# Altium schematic symbol library MCU_NXP_LPC.SchLib: 105 symbols (part 1 of 2)
Pins are listed as number, name and electrical type; pins without a type are passive.

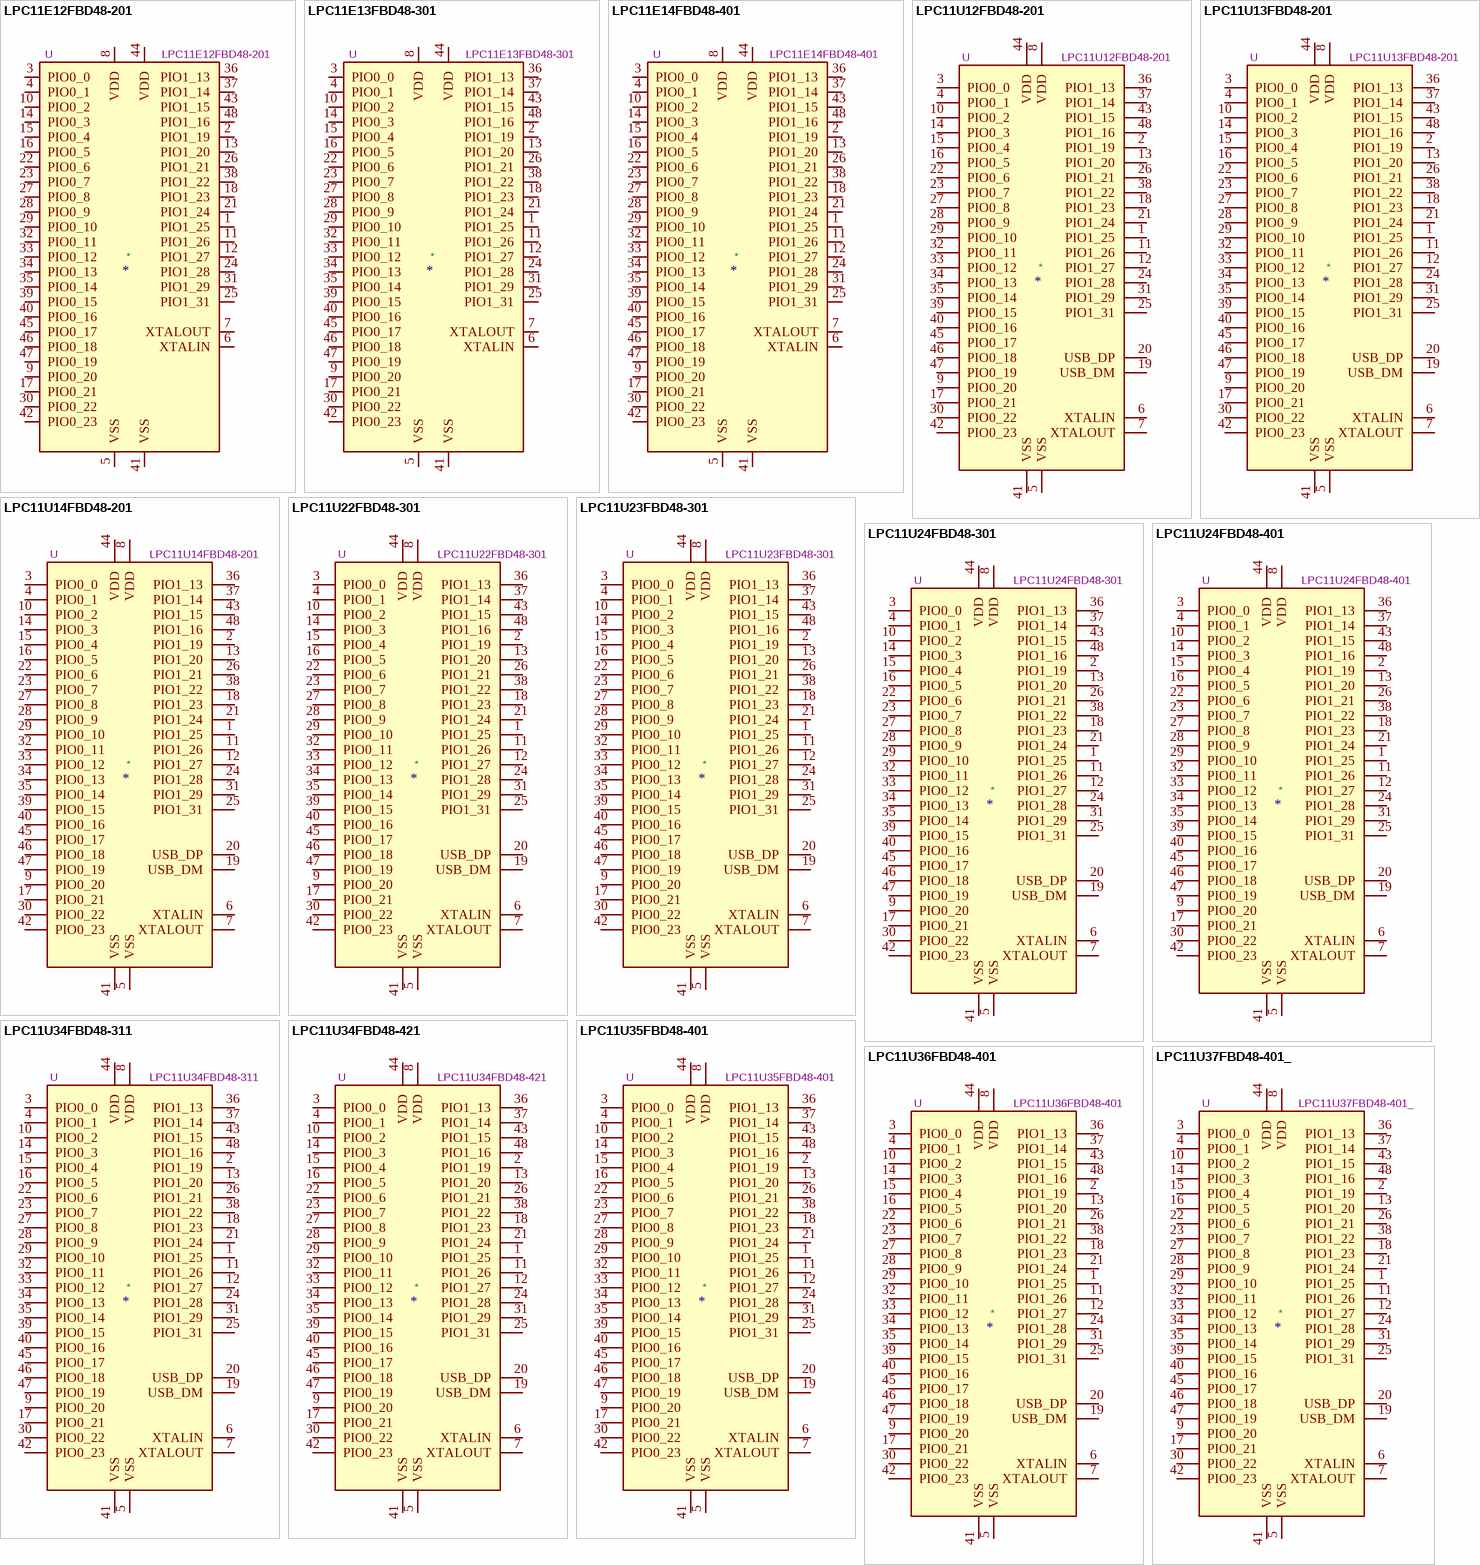
[diagram p0: symbols LPC11E12FBD48-201 to LPC11U37FBD48-401_]

## LPC11E12FBD48-201
designator *  value LPC11E12FBD48-201  Reference: U
ki_keywords: nxp lpc arm microcontroller cortex; ki_description: LPC11E1x, 50MHz Cortex-M0 MCU, 16kB Flash, 1kB EEPROM, 6kB SRAM, USART, I2C, SSP, ADC, Power Profile, LQFP48; ki_fp_filters: *QFP*7x7mm*P0.5mm*; Footprint: Package_QFP:LQFP-48_7x7mm_P0.5mm; Datasheet: http://www.nxp.com/docs/en/data-sheet/LPC11E1X.pdf
pins: 1 PIO1_25, 2 PIO1_19, 3 PIO0_0, 4 PIO0_1, 5 VSS, 6 XTALIN, 7 XTALOUT, 8 VDD, 9 PIO0_20, 10 PIO0_2, 11 PIO1_26, 12 PIO1_27, 13 PIO1_20, 14 PIO0_3, 15 PIO0_4, 16 PIO0_5, 17 PIO0_21, 18 PIO1_23, 19 NC hidden, 20 NC hidden, 21 PIO1_24, 22 PIO0_6, 23 PIO0_7, 24 PIO1_28, 25 PIO1_31, 26 PIO1_21, 27 PIO0_8, 28 PIO0_9, 29 PIO0_10, 30 PIO0_22, 31 PIO1_29, 32 PIO0_11, 33 PIO0_12, 34 PIO0_13, 35 PIO0_14, 36 PIO1_13, 37 PIO1_14, 38 PIO1_22, 39 PIO0_15, 40 PIO0_16, 41 VSS, 42 PIO0_23, 43 PIO1_15, 44 VDD, 45 PIO0_17, 46 PIO0_18, 47 PIO0_19, 48 PIO1_16

## LPC11E13FBD48-301
designator *  value LPC11E13FBD48-301  Reference: U
ki_keywords: nxp lpc arm microcontroller cortex; ki_description: LPC11E1x, 50MHz Cortex-M0 MCU, 24kB Flash, 2kB EEPROM, 8kB SRAM, USART, I2C, SSP, ADC, Power Profile, LQFP48; ki_fp_filters: *QFP*7x7mm*P0.5mm*; Footprint: Package_QFP:LQFP-48_7x7mm_P0.5mm; Datasheet: http://www.nxp.com/docs/en/data-sheet/LPC11E1X.pdf
pins: 1 PIO1_25, 2 PIO1_19, 3 PIO0_0, 4 PIO0_1, 5 VSS, 6 XTALIN, 7 XTALOUT, 8 VDD, 9 PIO0_20, 10 PIO0_2, 11 PIO1_26, 12 PIO1_27, 13 PIO1_20, 14 PIO0_3, 15 PIO0_4, 16 PIO0_5, 17 PIO0_21, 18 PIO1_23, 19 NC hidden, 20 NC hidden, 21 PIO1_24, 22 PIO0_6, 23 PIO0_7, 24 PIO1_28, 25 PIO1_31, 26 PIO1_21, 27 PIO0_8, 28 PIO0_9, 29 PIO0_10, 30 PIO0_22, 31 PIO1_29, 32 PIO0_11, 33 PIO0_12, 34 PIO0_13, 35 PIO0_14, 36 PIO1_13, 37 PIO1_14, 38 PIO1_22, 39 PIO0_15, 40 PIO0_16, 41 VSS, 42 PIO0_23, 43 PIO1_15, 44 VDD, 45 PIO0_17, 46 PIO0_18, 47 PIO0_19, 48 PIO1_16

## LPC11E14FBD48-401
designator *  value LPC11E14FBD48-401  Reference: U
ki_keywords: nxp lpc arm microcontroller cortex; ki_description: LPC11U00 USB series, 50MHz Cortex-M0 MCU, USB, ADC, USART, I2C, SPI, LQFP48 package; ki_fp_filters: *QFP*7x7mm*P0.5mm*; Footprint: Package_QFP:LQFP-48_7x7mm_P0.5mm; Datasheet: http://www.nxp.com/docs/en/data-sheet/LPC11U1X.pdf
pins: 1 PIO1_25, 2 PIO1_19, 3 PIO0_0, 4 PIO0_1, 5 VSS, 6 XTALIN, 7 XTALOUT, 8 VDD, 9 PIO0_20, 10 PIO0_2, 11 PIO1_26, 12 PIO1_27, 13 PIO1_20, 14 PIO0_3, 15 PIO0_4, 16 PIO0_5, 17 PIO0_21, 18 PIO1_23, 19 NC hidden, 20 NC hidden, 21 PIO1_24, 22 PIO0_6, 23 PIO0_7, 24 PIO1_28, 25 PIO1_31, 26 PIO1_21, 27 PIO0_8, 28 PIO0_9, 29 PIO0_10, 30 PIO0_22, 31 PIO1_29, 32 PIO0_11, 33 PIO0_12, 34 PIO0_13, 35 PIO0_14, 36 PIO1_13, 37 PIO1_14, 38 PIO1_22, 39 PIO0_15, 40 PIO0_16, 41 VSS, 42 PIO0_23, 43 PIO1_15, 44 VDD, 45 PIO0_17, 46 PIO0_18, 47 PIO0_19, 48 PIO1_16

## LPC11U12FBD48-201
designator *  value LPC11U12FBD48-201  Reference: U
ki_keywords: ARM, 32-bit, Cortex-M0, M0, NXP, microcontroller; ki_description: 32-bit ARM Cortex-M0 microcontroller, USB, 16KB flash, 6KB SRAM; ki_fp_filters: *QFP*7x7mm*P0.5mm*; Footprint: Package_QFP:LQFP-48_7x7mm_P0.5mm; Datasheet: http://www.nxp.com/docs/en/data-sheet/LPC11U1X.pdf
pins: 1 PIO1_25, 2 PIO1_19, 3 PIO0_0, 4 PIO0_1, 5 VSS, 6 XTALIN, 7 XTALOUT, 8 VDD, 9 PIO0_20, 10 PIO0_2, 11 PIO1_26, 12 PIO1_27, 13 PIO1_20, 14 PIO0_3, 15 PIO0_4, 16 PIO0_5, 17 PIO0_21, 18 PIO1_23, 19 USB_DM, 20 USB_DP, 21 PIO1_24, 22 PIO0_6, 23 PIO0_7, 24 PIO1_28, 25 PIO1_31, 26 PIO1_21, 27 PIO0_8, 28 PIO0_9, 29 PIO0_10, 30 PIO0_22, 31 PIO1_29, 32 PIO0_11, 33 PIO0_12, 34 PIO0_13, 35 PIO0_14, 36 PIO1_13, 37 PIO1_14, 38 PIO1_22, 39 PIO0_15, 40 PIO0_16, 41 VSS, 42 PIO0_23, 43 PIO1_15, 44 VDD, 45 PIO0_17, 46 PIO0_18, 47 PIO0_19, 48 PIO1_16

## LPC11U13FBD48-201
designator *  value LPC11U13FBD48-201  Reference: U
ki_keywords: ARM, 32-bit, Cortex-M0, M0, NXP, microcontroller; ki_description: 32-bit ARM Cortex-M0 microcontroller, USB, 24KB flash, 6KB SRAM; ki_fp_filters: *QFP*7x7mm*P0.5mm*; Footprint: Package_QFP:LQFP-48_7x7mm_P0.5mm; Datasheet: http://www.nxp.com/docs/en/data-sheet/LPC11U1X.pdf
pins: 1 PIO1_25, 2 PIO1_19, 3 PIO0_0, 4 PIO0_1, 5 VSS, 6 XTALIN, 7 XTALOUT, 8 VDD, 9 PIO0_20, 10 PIO0_2, 11 PIO1_26, 12 PIO1_27, 13 PIO1_20, 14 PIO0_3, 15 PIO0_4, 16 PIO0_5, 17 PIO0_21, 18 PIO1_23, 19 USB_DM, 20 USB_DP, 21 PIO1_24, 22 PIO0_6, 23 PIO0_7, 24 PIO1_28, 25 PIO1_31, 26 PIO1_21, 27 PIO0_8, 28 PIO0_9, 29 PIO0_10, 30 PIO0_22, 31 PIO1_29, 32 PIO0_11, 33 PIO0_12, 34 PIO0_13, 35 PIO0_14, 36 PIO1_13, 37 PIO1_14, 38 PIO1_22, 39 PIO0_15, 40 PIO0_16, 41 VSS, 42 PIO0_23, 43 PIO1_15, 44 VDD, 45 PIO0_17, 46 PIO0_18, 47 PIO0_19, 48 PIO1_16

## LPC11U14FBD48-201
designator *  value LPC11U14FBD48-201  Reference: U
ki_keywords: ARM, 32-bit, Cortex-M0, M0, NXP, microcontroller; ki_description: 32-bit ARM Cortex-M0 microcontroller, USB, 32KB flash, 6KB SRAM; ki_fp_filters: *QFP*7x7mm*P0.5mm*; Footprint: Package_QFP:LQFP-48_7x7mm_P0.5mm; Datasheet: http://www.nxp.com/docs/en/data-sheet/LPC11U1X.pdf
pins: 1 PIO1_25, 2 PIO1_19, 3 PIO0_0, 4 PIO0_1, 5 VSS, 6 XTALIN, 7 XTALOUT, 8 VDD, 9 PIO0_20, 10 PIO0_2, 11 PIO1_26, 12 PIO1_27, 13 PIO1_20, 14 PIO0_3, 15 PIO0_4, 16 PIO0_5, 17 PIO0_21, 18 PIO1_23, 19 USB_DM, 20 USB_DP, 21 PIO1_24, 22 PIO0_6, 23 PIO0_7, 24 PIO1_28, 25 PIO1_31, 26 PIO1_21, 27 PIO0_8, 28 PIO0_9, 29 PIO0_10, 30 PIO0_22, 31 PIO1_29, 32 PIO0_11, 33 PIO0_12, 34 PIO0_13, 35 PIO0_14, 36 PIO1_13, 37 PIO1_14, 38 PIO1_22, 39 PIO0_15, 40 PIO0_16, 41 VSS, 42 PIO0_23, 43 PIO1_15, 44 VDD, 45 PIO0_17, 46 PIO0_18, 47 PIO0_19, 48 PIO1_16

## LPC11U22FBD48-301
designator *  value LPC11U22FBD48-301  Reference: U
ki_keywords: ARM, 32-bit, Cortex-M0, M0, NXP, microcontroller; ki_description: 32-bit ARM Cortex-M0 microcontroller, USB, 16KB flash, 8KB SRAM; ki_fp_filters: *QFP*7x7mm*P0.5mm*; Footprint: Package_QFP:LQFP-48_7x7mm_P0.5mm; Datasheet: http://www.nxp.com/docs/en/data-sheet/LPC11U2X.pdf
pins: 1 PIO1_25, 2 PIO1_19, 3 PIO0_0, 4 PIO0_1, 5 VSS, 6 XTALIN, 7 XTALOUT, 8 VDD, 9 PIO0_20, 10 PIO0_2, 11 PIO1_26, 12 PIO1_27, 13 PIO1_20, 14 PIO0_3, 15 PIO0_4, 16 PIO0_5, 17 PIO0_21, 18 PIO1_23, 19 USB_DM, 20 USB_DP, 21 PIO1_24, 22 PIO0_6, 23 PIO0_7, 24 PIO1_28, 25 PIO1_31, 26 PIO1_21, 27 PIO0_8, 28 PIO0_9, 29 PIO0_10, 30 PIO0_22, 31 PIO1_29, 32 PIO0_11, 33 PIO0_12, 34 PIO0_13, 35 PIO0_14, 36 PIO1_13, 37 PIO1_14, 38 PIO1_22, 39 PIO0_15, 40 PIO0_16, 41 VSS, 42 PIO0_23, 43 PIO1_15, 44 VDD, 45 PIO0_17, 46 PIO0_18, 47 PIO0_19, 48 PIO1_16

## LPC11U23FBD48-301
designator *  value LPC11U23FBD48-301  Reference: U
ki_keywords: ARM, 32-bit, Cortex-M0, M0, NXP, microcontroller; ki_description: 32-bit ARM Cortex-M0 microcontroller, USB, 24KB flash, 8KB SRAM; ki_fp_filters: *QFP*7x7mm*P0.5mm*; Footprint: Package_QFP:LQFP-48_7x7mm_P0.5mm; Datasheet: http://www.nxp.com/docs/en/data-sheet/LPC11U2X.pdf
pins: 1 PIO1_25, 2 PIO1_19, 3 PIO0_0, 4 PIO0_1, 5 VSS, 6 XTALIN, 7 XTALOUT, 8 VDD, 9 PIO0_20, 10 PIO0_2, 11 PIO1_26, 12 PIO1_27, 13 PIO1_20, 14 PIO0_3, 15 PIO0_4, 16 PIO0_5, 17 PIO0_21, 18 PIO1_23, 19 USB_DM, 20 USB_DP, 21 PIO1_24, 22 PIO0_6, 23 PIO0_7, 24 PIO1_28, 25 PIO1_31, 26 PIO1_21, 27 PIO0_8, 28 PIO0_9, 29 PIO0_10, 30 PIO0_22, 31 PIO1_29, 32 PIO0_11, 33 PIO0_12, 34 PIO0_13, 35 PIO0_14, 36 PIO1_13, 37 PIO1_14, 38 PIO1_22, 39 PIO0_15, 40 PIO0_16, 41 VSS, 42 PIO0_23, 43 PIO1_15, 44 VDD, 45 PIO0_17, 46 PIO0_18, 47 PIO0_19, 48 PIO1_16

## LPC11U24FBD48-301
designator *  value LPC11U24FBD48-301  Reference: U
ki_keywords: ARM, 32-bit, Cortex-M0, M0, NXP, microcontroller; ki_description: 32-bit ARM Cortex-M0 microcontroller, USB, 32KB flash, 8KB SRAM; ki_fp_filters: *QFP*7x7mm*P0.5mm*; Footprint: Package_QFP:LQFP-48_7x7mm_P0.5mm; Datasheet: http://www.nxp.com/docs/en/data-sheet/LPC11U2X.pdf
pins: 1 PIO1_25, 2 PIO1_19, 3 PIO0_0, 4 PIO0_1, 5 VSS, 6 XTALIN, 7 XTALOUT, 8 VDD, 9 PIO0_20, 10 PIO0_2, 11 PIO1_26, 12 PIO1_27, 13 PIO1_20, 14 PIO0_3, 15 PIO0_4, 16 PIO0_5, 17 PIO0_21, 18 PIO1_23, 19 USB_DM, 20 USB_DP, 21 PIO1_24, 22 PIO0_6, 23 PIO0_7, 24 PIO1_28, 25 PIO1_31, 26 PIO1_21, 27 PIO0_8, 28 PIO0_9, 29 PIO0_10, 30 PIO0_22, 31 PIO1_29, 32 PIO0_11, 33 PIO0_12, 34 PIO0_13, 35 PIO0_14, 36 PIO1_13, 37 PIO1_14, 38 PIO1_22, 39 PIO0_15, 40 PIO0_16, 41 VSS, 42 PIO0_23, 43 PIO1_15, 44 VDD, 45 PIO0_17, 46 PIO0_18, 47 PIO0_19, 48 PIO1_16

## LPC11U24FBD48-401
designator *  value LPC11U24FBD48-401  Reference: U
ki_keywords: ARM, 32-bit, Cortex-M0, M0, NXP, microcontroller; ki_description: 32-bit ARM Cortex-M0 microcontroller, USB, 32KB flash, 10KB SRAM; ki_fp_filters: *QFP*7x7mm*P0.5mm*; Footprint: Package_QFP:LQFP-48_7x7mm_P0.5mm; Datasheet: http://www.nxp.com/docs/en/data-sheet/LPC11U2X.pdf
pins: 1 PIO1_25, 2 PIO1_19, 3 PIO0_0, 4 PIO0_1, 5 VSS, 6 XTALIN, 7 XTALOUT, 8 VDD, 9 PIO0_20, 10 PIO0_2, 11 PIO1_26, 12 PIO1_27, 13 PIO1_20, 14 PIO0_3, 15 PIO0_4, 16 PIO0_5, 17 PIO0_21, 18 PIO1_23, 19 USB_DM, 20 USB_DP, 21 PIO1_24, 22 PIO0_6, 23 PIO0_7, 24 PIO1_28, 25 PIO1_31, 26 PIO1_21, 27 PIO0_8, 28 PIO0_9, 29 PIO0_10, 30 PIO0_22, 31 PIO1_29, 32 PIO0_11, 33 PIO0_12, 34 PIO0_13, 35 PIO0_14, 36 PIO1_13, 37 PIO1_14, 38 PIO1_22, 39 PIO0_15, 40 PIO0_16, 41 VSS, 42 PIO0_23, 43 PIO1_15, 44 VDD, 45 PIO0_17, 46 PIO0_18, 47 PIO0_19, 48 PIO1_16

## LPC11U34FBD48-311
designator *  value LPC11U34FBD48-311  Reference: U
ki_keywords: ARM, 32-bit, Cortex-M0, M0, NXP, microcontroller; ki_description: 32-bit ARM Cortex-M0 microcontroller, USB, 40KB flash, 8KB SRAM; ki_fp_filters: *QFP*7x7mm*P0.5mm*; Footprint: Package_QFP:LQFP-48_7x7mm_P0.5mm; Datasheet: http://www.nxp.com/docs/en/data-sheet/LPC11U3X.pdf
pins: 1 PIO1_25, 2 PIO1_19, 3 PIO0_0, 4 PIO0_1, 5 VSS, 6 XTALIN, 7 XTALOUT, 8 VDD, 9 PIO0_20, 10 PIO0_2, 11 PIO1_26, 12 PIO1_27, 13 PIO1_20, 14 PIO0_3, 15 PIO0_4, 16 PIO0_5, 17 PIO0_21, 18 PIO1_23, 19 USB_DM, 20 USB_DP, 21 PIO1_24, 22 PIO0_6, 23 PIO0_7, 24 PIO1_28, 25 PIO1_31, 26 PIO1_21, 27 PIO0_8, 28 PIO0_9, 29 PIO0_10, 30 PIO0_22, 31 PIO1_29, 32 PIO0_11, 33 PIO0_12, 34 PIO0_13, 35 PIO0_14, 36 PIO1_13, 37 PIO1_14, 38 PIO1_22, 39 PIO0_15, 40 PIO0_16, 41 VSS, 42 PIO0_23, 43 PIO1_15, 44 VDD, 45 PIO0_17, 46 PIO0_18, 47 PIO0_19, 48 PIO1_16

## LPC11U34FBD48-421
designator *  value LPC11U34FBD48-421  Reference: U
ki_keywords: ARM, 32-bit, Cortex-M0, M0, NXP, microcontroller; ki_description: 32-bit ARM Cortex-M0 microcontroller, USB, 48KB flash, 10KB SRAM; ki_fp_filters: *QFP*7x7mm*P0.5mm*; Footprint: Package_QFP:LQFP-48_7x7mm_P0.5mm; Datasheet: http://www.nxp.com/docs/en/data-sheet/LPC11U3X.pdf
pins: 1 PIO1_25, 2 PIO1_19, 3 PIO0_0, 4 PIO0_1, 5 VSS, 6 XTALIN, 7 XTALOUT, 8 VDD, 9 PIO0_20, 10 PIO0_2, 11 PIO1_26, 12 PIO1_27, 13 PIO1_20, 14 PIO0_3, 15 PIO0_4, 16 PIO0_5, 17 PIO0_21, 18 PIO1_23, 19 USB_DM, 20 USB_DP, 21 PIO1_24, 22 PIO0_6, 23 PIO0_7, 24 PIO1_28, 25 PIO1_31, 26 PIO1_21, 27 PIO0_8, 28 PIO0_9, 29 PIO0_10, 30 PIO0_22, 31 PIO1_29, 32 PIO0_11, 33 PIO0_12, 34 PIO0_13, 35 PIO0_14, 36 PIO1_13, 37 PIO1_14, 38 PIO1_22, 39 PIO0_15, 40 PIO0_16, 41 VSS, 42 PIO0_23, 43 PIO1_15, 44 VDD, 45 PIO0_17, 46 PIO0_18, 47 PIO0_19, 48 PIO1_16

## LPC11U35FBD48-401
designator *  value LPC11U35FBD48-401  Reference: U
ki_keywords: ARM, 32-bit, Cortex-M0, M0, NXP, microcontroller; ki_description: 32-bit ARM Cortex-M0 microcontroller, USB, 64KB flash, 10KB SRAM; ki_fp_filters: *QFP*7x7mm*P0.5mm*; Footprint: Package_QFP:LQFP-48_7x7mm_P0.5mm; Datasheet: http://www.nxp.com/docs/en/data-sheet/LPC11U3X.pdf
pins: 1 PIO1_25, 2 PIO1_19, 3 PIO0_0, 4 PIO0_1, 5 VSS, 6 XTALIN, 7 XTALOUT, 8 VDD, 9 PIO0_20, 10 PIO0_2, 11 PIO1_26, 12 PIO1_27, 13 PIO1_20, 14 PIO0_3, 15 PIO0_4, 16 PIO0_5, 17 PIO0_21, 18 PIO1_23, 19 USB_DM, 20 USB_DP, 21 PIO1_24, 22 PIO0_6, 23 PIO0_7, 24 PIO1_28, 25 PIO1_31, 26 PIO1_21, 27 PIO0_8, 28 PIO0_9, 29 PIO0_10, 30 PIO0_22, 31 PIO1_29, 32 PIO0_11, 33 PIO0_12, 34 PIO0_13, 35 PIO0_14, 36 PIO1_13, 37 PIO1_14, 38 PIO1_22, 39 PIO0_15, 40 PIO0_16, 41 VSS, 42 PIO0_23, 43 PIO1_15, 44 VDD, 45 PIO0_17, 46 PIO0_18, 47 PIO0_19, 48 PIO1_16

## LPC11U36FBD48-401
designator *  value LPC11U36FBD48-401  Reference: U
ki_keywords: ARM, 32-bit, Cortex-M0, M0, NXP, microcontroller; ki_description: 32-bit ARM Cortex-M0 microcontroller, USB, 96KB flash, 10KB SRAM; ki_fp_filters: *QFP*7x7mm*P0.5mm*; Footprint: Package_QFP:LQFP-48_7x7mm_P0.5mm; Datasheet: http://www.nxp.com/docs/en/data-sheet/LPC11U3X.pdf
pins: 1 PIO1_25, 2 PIO1_19, 3 PIO0_0, 4 PIO0_1, 5 VSS, 6 XTALIN, 7 XTALOUT, 8 VDD, 9 PIO0_20, 10 PIO0_2, 11 PIO1_26, 12 PIO1_27, 13 PIO1_20, 14 PIO0_3, 15 PIO0_4, 16 PIO0_5, 17 PIO0_21, 18 PIO1_23, 19 USB_DM, 20 USB_DP, 21 PIO1_24, 22 PIO0_6, 23 PIO0_7, 24 PIO1_28, 25 PIO1_31, 26 PIO1_21, 27 PIO0_8, 28 PIO0_9, 29 PIO0_10, 30 PIO0_22, 31 PIO1_29, 32 PIO0_11, 33 PIO0_12, 34 PIO0_13, 35 PIO0_14, 36 PIO1_13, 37 PIO1_14, 38 PIO1_22, 39 PIO0_15, 40 PIO0_16, 41 VSS, 42 PIO0_23, 43 PIO1_15, 44 VDD, 45 PIO0_17, 46 PIO0_18, 47 PIO0_19, 48 PIO1_16

## LPC11U37FBD48-401_
designator *  value LPC11U37FBD48-401_  Reference: U
ki_keywords: ARM, 32-bit, Cortex-M0, M0, NXP, microcontroller; ki_description: 32-bit ARM Cortex-M0 microcontroller, USB, 128KB flash, 10KB SRAM; ki_fp_filters: *QFP*7x7mm*P0.5mm*; Footprint: Package_QFP:LQFP-48_7x7mm_P0.5mm; Datasheet: http://www.nxp.com/docs/en/data-sheet/LPC11U3X.pdf
pins: 1 PIO1_25, 2 PIO1_19, 3 PIO0_0, 4 PIO0_1, 5 VSS, 6 XTALIN, 7 XTALOUT, 8 VDD, 9 PIO0_20, 10 PIO0_2, 11 PIO1_26, 12 PIO1_27, 13 PIO1_20, 14 PIO0_3, 15 PIO0_4, 16 PIO0_5, 17 PIO0_21, 18 PIO1_23, 19 USB_DM, 20 USB_DP, 21 PIO1_24, 22 PIO0_6, 23 PIO0_7, 24 PIO1_28, 25 PIO1_31, 26 PIO1_21, 27 PIO0_8, 28 PIO0_9, 29 PIO0_10, 30 PIO0_22, 31 PIO1_29, 32 PIO0_11, 33 PIO0_12, 34 PIO0_13, 35 PIO0_14, 36 PIO1_13, 37 PIO1_14, 38 PIO1_22, 39 PIO0_15, 40 PIO0_16, 41 VSS, 42 PIO0_23, 43 PIO1_15, 44 VDD, 45 PIO0_17, 46 PIO0_18, 47 PIO0_19, 48 PIO1_16

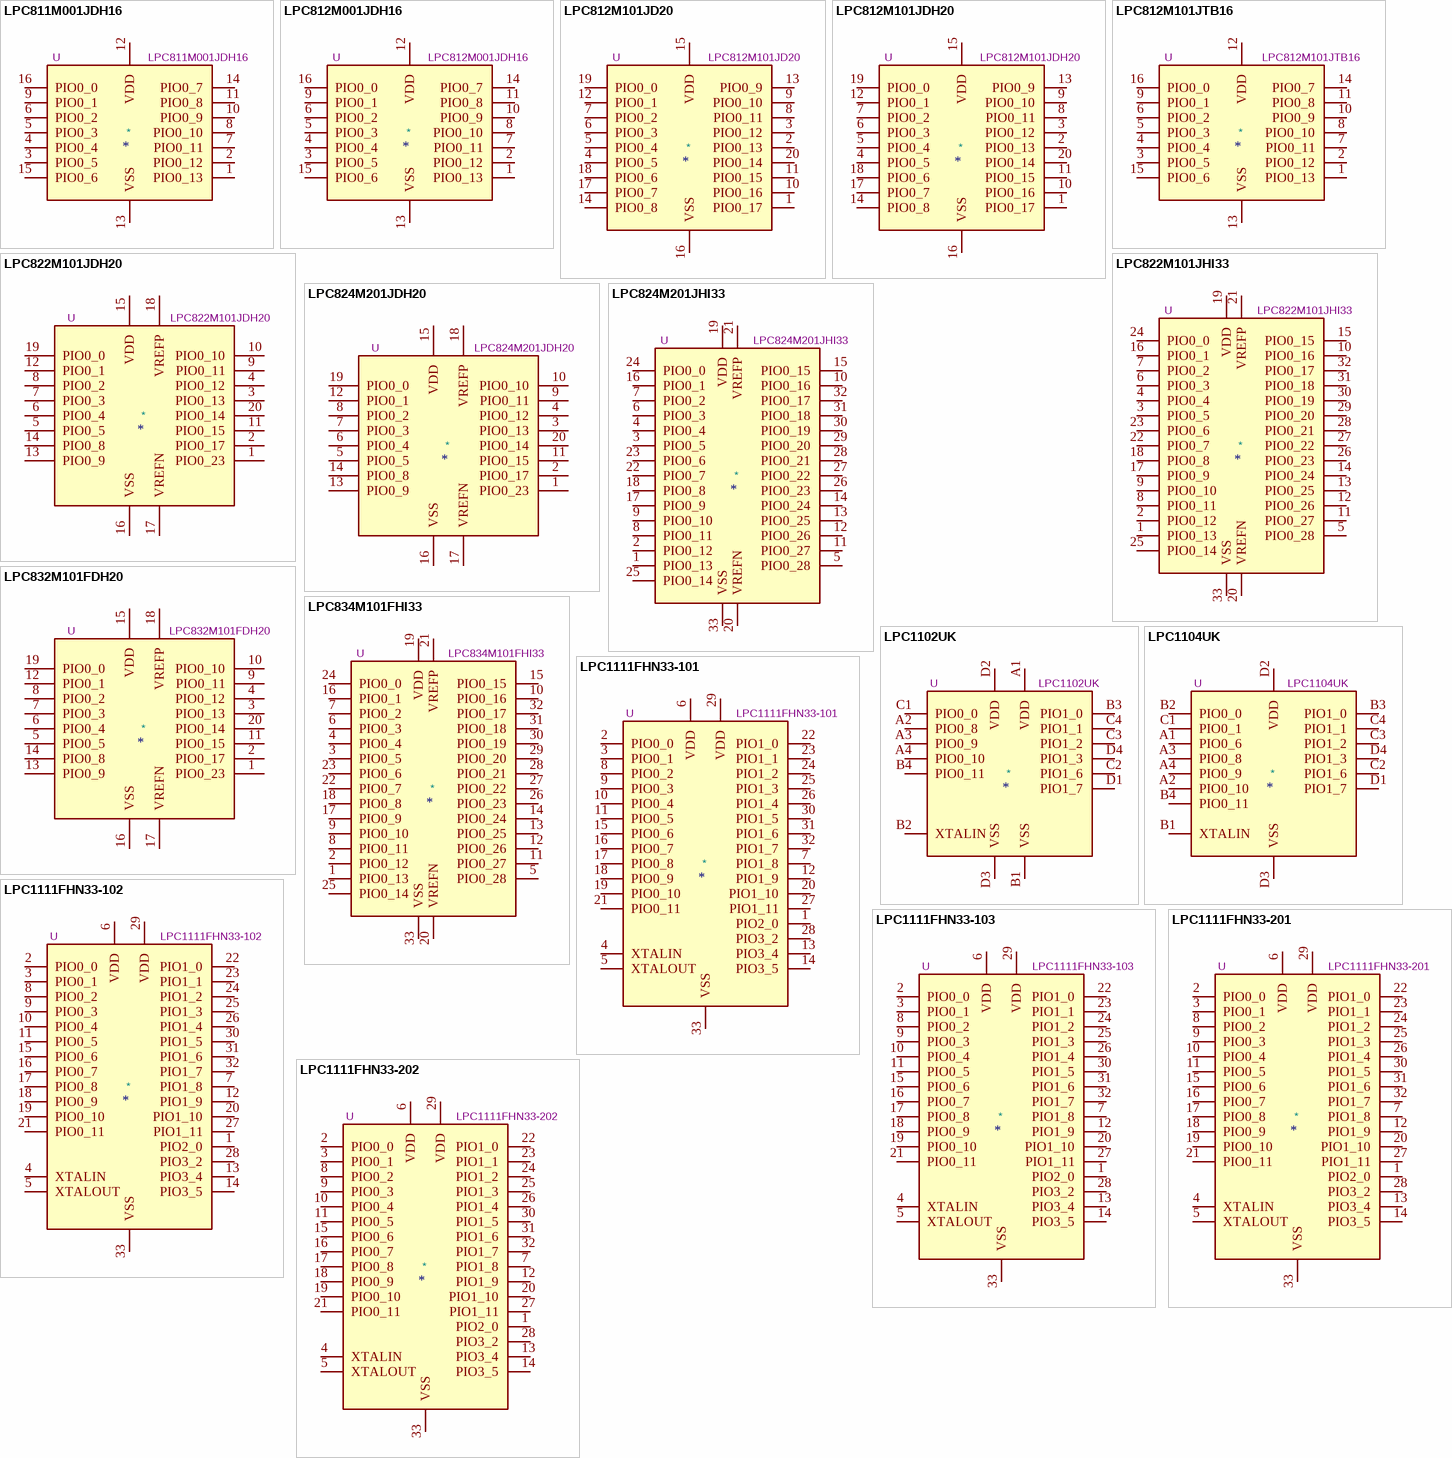
[diagram p1: symbols LPC811M001JDH16 to LPC1111FHN33-202]

## LPC811M001JDH16
designator *  value LPC811M001JDH16  Reference: U
ki_keywords: ARM, 32-bit, Cortex-M0, M0, NXP, microcontroller; ki_description: 32-bit ARM Cortex-M0 microcontroller, 8kB flash, 2kB SRAM; ki_fp_filters: *TSSOP*4.4x5mm*P0.65mm*; Footprint: Package_SO:TSSOP-16_4.4x5mm_P0.65mm; Datasheet: http://www.nxp.com/docs/en/data-sheet/LPC81XM.pdf
pins: 1 PIO0_13, 2 PIO0_12, 3 PIO0_5, 4 PIO0_4, 5 PIO0_3, 6 PIO0_2, 7 PIO0_11, 8 PIO0_10, 9 PIO0_1, 10 PIO0_9, 11 PIO0_8, 12 VDD, 13 VSS, 14 PIO0_7, 15 PIO0_6, 16 PIO0_0

## LPC812M001JDH16
designator *  value LPC812M001JDH16  Reference: U
ki_keywords: ARM, 32-bit, Cortex-M0, M0, NXP, microcontroller; ki_description: 32-bit ARM Cortex-M0 microcontroller, 16kB flash, 4kB SRAM; ki_fp_filters: *TSSOP*4.4x5mm*P0.65mm*; Footprint: Package_SO:TSSOP-16_4.4x5mm_P0.65mm; Datasheet: http://www.nxp.com/docs/en/data-sheet/LPC81XM.pdf
pins: 1 PIO0_13, 2 PIO0_12, 3 PIO0_5, 4 PIO0_4, 5 PIO0_3, 6 PIO0_2, 7 PIO0_11, 8 PIO0_10, 9 PIO0_1, 10 PIO0_9, 11 PIO0_8, 12 VDD, 13 VSS, 14 PIO0_7, 15 PIO0_6, 16 PIO0_0

## LPC812M101JD20
designator *  value LPC812M101JD20  Reference: U
ki_keywords: ARM, 32-bit, Cortex-M0, M0, NXP, microcontroller; ki_description: 32-bit ARM Cortex-M0 microcontroller, 16kB flash, 4kB SRAM; ki_fp_filters: *SOIC*7.5x12.8mm*P1.27mm*; Footprint: Package_SO:SOIC-20W_7.5x12.8mm_P1.27mm; Datasheet: http://www.nxp.com/docs/en/data-sheet/LPC81XM.pdf
pins: 1 PIO0_17, 2 PIO0_13, 3 PIO0_12, 4 PIO0_5, 5 PIO0_4, 6 PIO0_3, 7 PIO0_2, 8 PIO0_11, 9 PIO0_10, 10 PIO0_16, 11 PIO0_15, 12 PIO0_1, 13 PIO0_9, 14 PIO0_8, 15 VDD, 16 VSS, 17 PIO0_7, 18 PIO0_6, 19 PIO0_0, 20 PIO0_14

## LPC812M101JDH20
designator *  value LPC812M101JDH20  Reference: U
ki_keywords: ARM, 32-bit, Cortex-M0, M0, NXP, microcontroller; ki_description: 32-bit ARM Cortex-M0 microcontroller, 16kB flash, 4kB SRAM; ki_fp_filters: *TSSOP*4.4x6.5mm*P0.65mm*; Footprint: Package_SO:TSSOP-20_4.4x6.5mm_P0.65mm; Datasheet: http://www.nxp.com/docs/en/data-sheet/LPC81XM.pdf
pins: 1 PIO0_17, 2 PIO0_13, 3 PIO0_12, 4 PIO0_5, 5 PIO0_4, 6 PIO0_3, 7 PIO0_2, 8 PIO0_11, 9 PIO0_10, 10 PIO0_16, 11 PIO0_15, 12 PIO0_1, 13 PIO0_9, 14 PIO0_8, 15 VDD, 16 VSS, 17 PIO0_7, 18 PIO0_6, 19 PIO0_0, 20 PIO0_14

## LPC812M101JTB16
designator *  value LPC812M101JTB16  Reference: U
ki_keywords: ARM, 32-bit, Cortex-M0, M0, NXP, microcontroller; ki_description: 32-bit ARM Cortex-M0 microcontroller, 16kB flash, 4kB SRAM; ki_fp_filters: NXP*XSON*; Footprint: Package_SON:NXP_XSON-16; Datasheet: http://www.nxp.com/docs/en/data-sheet/LPC81XM.pdf
pins: 1 PIO0_13, 2 PIO0_12, 3 PIO0_5, 4 PIO0_4, 5 PIO0_3, 6 PIO0_2, 7 PIO0_11, 8 PIO0_10, 9 PIO0_1, 10 PIO0_9, 11 PIO0_8, 12 VDD, 13 VSS, 14 PIO0_7, 15 PIO0_6, 16 PIO0_0

## LPC822M101JDH20
designator *  value LPC822M101JDH20  Reference: U
ki_keywords: ARM, 32-bit, Cortex-M0, M0, NXP, microcontroller; ki_description: 32-bit ARM Cortex-M0 microcontroller, 16kB flash, 4kB SRAM; ki_fp_filters: *TSSOP*4.4x6.5mm*P0.65mm*; Footprint: Package_SO:TSSOP-20_4.4x6.5mm_P0.65mm; Datasheet: http://www.nxp.com/docs/en/data-sheet/LPC82X.pdf
pins: 1 PIO0_23, 2 PIO0_17, 3 PIO0_13, 4 PIO0_12, 5 PIO0_5, 6 PIO0_4, 7 PIO0_3, 8 PIO0_2, 9 PIO0_11, 10 PIO0_10, 11 PIO0_15, 12 PIO0_1, 13 PIO0_9, 14 PIO0_8, 15 VDD, 16 VSS, 17 VREFN, 18 VREFP, 19 PIO0_0, 20 PIO0_14

## LPC822M101JHI33
designator *  value LPC822M101JHI33  Reference: U
ki_keywords: ARM, 32-bit, Cortex-M0, M0, NXP, microcontroller; ki_description: 32-bit ARM Cortex-M0 microcontroller, 16kB flash, 4kB SRAM; ki_fp_filters: *QFN*5x5mm*P0.5mm*; Footprint: Package_DFN_QFN:QFN-32-1EP_5x5mm_P0.5mm_EP3.45x3.45mm; Datasheet: http://www.nxp.com/docs/en/data-sheet/LPC82X.pdf
pins: 1 PIO0_13, 2 PIO0_12, 3 PIO0_5, 4 PIO0_4, 5 PIO0_28, 6 PIO0_3, 7 PIO0_2, 8 PIO0_11, 9 PIO0_10, 10 PIO0_16, 11 PIO0_27, 12 PIO0_26, 13 PIO0_25, 14 PIO0_24, 15 PIO0_15, 16 PIO0_1, 17 PIO0_9, 18 PIO0_8, 19 VDD, 20 VREFN, 21 VREFP, 22 PIO0_7, 23 PIO0_6, 24 PIO0_0, 25 PIO0_14, 26 PIO0_23, 27 PIO0_22, 28 PIO0_21, 29 PIO0_20, 30 PIO0_19, 31 PIO0_18, 32 PIO0_17, 33 VSS

## LPC824M201JDH20
designator *  value LPC824M201JDH20  Reference: U
ki_keywords: ARM, 32-bit, Cortex-M0, M0, NXP, microcontroller; ki_description: 32-bit ARM Cortex-M0 microcontroller, 32kB flash, 8kB SRAM; ki_fp_filters: *TSSOP*4.4x6.5mm*P0.65mm*; Footprint: Package_SO:TSSOP-20_4.4x6.5mm_P0.65mm; Datasheet: http://www.nxp.com/docs/en/data-sheet/LPC82X.pdf
pins: 1 PIO0_23, 2 PIO0_17, 3 PIO0_13, 4 PIO0_12, 5 PIO0_5, 6 PIO0_4, 7 PIO0_3, 8 PIO0_2, 9 PIO0_11, 10 PIO0_10, 11 PIO0_15, 12 PIO0_1, 13 PIO0_9, 14 PIO0_8, 15 VDD, 16 VSS, 17 VREFN, 18 VREFP, 19 PIO0_0, 20 PIO0_14

## LPC824M201JHI33
designator *  value LPC824M201JHI33  Reference: U
ki_keywords: ARM, 32-bit, Cortex-M0, M0, NXP, microcontroller; ki_description: 32-bit ARM Cortex-M0 microcontroller, 32kB flash, 8kB SRAM; ki_fp_filters: *QFN*5x5mm*P0.5mm*; Footprint: Package_DFN_QFN:QFN-32-1EP_5x5mm_P0.5mm_EP3.45x3.45mm; Datasheet: http://www.nxp.com/docs/en/data-sheet/LPC82X.pdf
pins: 1 PIO0_13, 2 PIO0_12, 3 PIO0_5, 4 PIO0_4, 5 PIO0_28, 6 PIO0_3, 7 PIO0_2, 8 PIO0_11, 9 PIO0_10, 10 PIO0_16, 11 PIO0_27, 12 PIO0_26, 13 PIO0_25, 14 PIO0_24, 15 PIO0_15, 16 PIO0_1, 17 PIO0_9, 18 PIO0_8, 19 VDD, 20 VREFN, 21 VREFP, 22 PIO0_7, 23 PIO0_6, 24 PIO0_0, 25 PIO0_14, 26 PIO0_23, 27 PIO0_22, 28 PIO0_21, 29 PIO0_20, 30 PIO0_19, 31 PIO0_18, 32 PIO0_17, 33 VSS

## LPC832M101FDH20
designator *  value LPC832M101FDH20  Reference: U
ki_keywords: ARM, 32-bit, Cortex-M0, M0, NXP, microcontroller; ki_description: 32-bit ARM Cortex-M0 microcontroller, 16kB flash, 4kB SRAM; ki_fp_filters: *TSSOP*4.4x6.5mm*P0.65mm*; Footprint: Package_SO:TSSOP-20_4.4x6.5mm_P0.65mm; Datasheet: http://www.nxp.com/docs/en/data-sheet/LPC83X.pdf
pins: 1 PIO0_23, 2 PIO0_17, 3 PIO0_13, 4 PIO0_12, 5 PIO0_5, 6 PIO0_4, 7 PIO0_3, 8 PIO0_2, 9 PIO0_11, 10 PIO0_10, 11 PIO0_15, 12 PIO0_1, 13 PIO0_9, 14 PIO0_8, 15 VDD, 16 VSS, 17 VREFN, 18 VREFP, 19 PIO0_0, 20 PIO0_14

## LPC834M101FHI33
designator *  value LPC834M101FHI33  Reference: U
ki_keywords: ARM, 32-bit, Cortex-M0, M0, NXP, microcontroller; ki_description: 32-bit ARM Cortex-M0 microcontroller, 32kB flash, 4kB SRAM; ki_fp_filters: *QFN*5x5mm*P0.5mm*; Footprint: Package_DFN_QFN:QFN-32-1EP_5x5mm_P0.5mm_EP3.45x3.45mm; Datasheet: http://www.nxp.com/docs/en/data-sheet/LPC83X.pdf
pins: 1 PIO0_13, 2 PIO0_12, 3 PIO0_5, 4 PIO0_4, 5 PIO0_28, 6 PIO0_3, 7 PIO0_2, 8 PIO0_11, 9 PIO0_10, 10 PIO0_16, 11 PIO0_27, 12 PIO0_26, 13 PIO0_25, 14 PIO0_24, 15 PIO0_15, 16 PIO0_1, 17 PIO0_9, 18 PIO0_8, 19 VDD, 20 VREFN, 21 VREFP, 22 PIO0_7, 23 PIO0_6, 24 PIO0_0, 25 PIO0_14, 26 PIO0_23, 27 PIO0_22, 28 PIO0_21, 29 PIO0_20, 30 PIO0_19, 31 PIO0_18, 32 PIO0_17, 33 VSS

## LPC1102UK
designator *  value LPC1102UK  Reference: U
ki_keywords: ARM, 32-bit, Cortex-M0, M0, NXP, microcontroller; ki_description: 32-bit ARM Cortex-M0 microcontroller, 32kB flash, 8kB SRAM; ki_fp_filters: WLCSP*4x4*B2.17x2.32mm*P0.5mm*; Footprint: Package_CSP:WLCSP-16_4x4_B2.17x2.32mm_P0.5mm; Datasheet: http://www.nxp.com/docs/en/data-sheet/LPC1102_1104.pdf
pins: A1 VDD, A2 PIO0_8, A3 PIO0_9, A4 PIO0_10, B1 VSS, B2 XTALIN, B3 PIO1_0, B4 PIO0_11, C1 PIO0_0, C2 PIO1_6, C3 PIO1_2, C4 PIO1_1, D1 PIO1_7, D2 VDD, D3 VSS, D4 PIO1_3

## LPC1104UK
designator *  value LPC1104UK  Reference: U
ki_keywords: ARM, 32-bit, Cortex-M0, M0, NXP, microcontroller; ki_description: 32-bit ARM Cortex-M0 microcontroller, 32kB flash, 8kB SRAM; ki_fp_filters: WLCSP*4x4*B2.17x2.32mm*P0.5mm*; Footprint: Package_CSP:WLCSP-16_4x4_B2.17x2.32mm_P0.5mm; Datasheet: http://www.nxp.com/docs/en/data-sheet/LPC1102_1104.pdf
pins: A1 PIO0_6, A2 PIO0_10, A3 PIO0_8, A4 PIO0_9, B1 XTALIN, B2 PIO0_0, B3 PIO1_0, B4 PIO0_11, C1 PIO0_1, C2 PIO1_6, C3 PIO1_2, C4 PIO1_1, D1 PIO1_7, D2 VDD, D3 VSS, D4 PIO1_3

## LPC1111FHN33-101
designator *  value LPC1111FHN33-101  Reference: U
ki_keywords: ARM, 32-bit, Cortex-M0, M0, NXP, microcontroller; ki_description: 32-bit ARM Cortex-M0 microcontroller, 8KB flash, 2KB SRAM; ki_fp_filters: *QFN*7x7mm*P0.65mm*; Footprint: Package_DFN_QFN:QFN-32-1EP_7x7mm_P0.65mm_EP4.7x4.7mm_ThermalVias; Datasheet: https://www.nxp.com/docs/en/data-sheet/LPC111X.pdf
pins: 1 PIO2_0, 2 PIO0_0, 3 PIO0_1, 4 XTALIN, 5 XTALOUT, 6 VDD, 7 PIO1_8, 8 PIO0_2, 9 PIO0_3, 10 PIO0_4, 11 PIO0_5, 12 PIO1_9, 13 PIO3_4, 14 PIO3_5, 15 PIO0_6, 16 PIO0_7, 17 PIO0_8, 18 PIO0_9, 19 PIO0_10, 20 PIO1_10, 21 PIO0_11, 22 PIO1_0, 23 PIO1_1, 24 PIO1_2, 25 PIO1_3, 26 PIO1_4, 27 PIO1_11, 28 PIO3_2, 29 VDD, 30 PIO1_5, 31 PIO1_6, 32 PIO1_7, 33 VSS

## LPC1111FHN33-102
designator *  value LPC1111FHN33-102  Reference: U
ki_keywords: ARM, 32-bit, Cortex-M0, M0, NXP, microcontroller; ki_description: 32-bit ARM Cortex-M0 microcontroller, 8KB flash, 2KB SRAM, power profile; ki_fp_filters: *QFN*7x7mm*P0.65mm*; Footprint: Package_DFN_QFN:QFN-32-1EP_7x7mm_P0.65mm_EP4.7x4.7mm_ThermalVias; Datasheet: https://www.nxp.com/docs/en/data-sheet/LPC111X.pdf
pins: 1 PIO2_0, 2 PIO0_0, 3 PIO0_1, 4 XTALIN, 5 XTALOUT, 6 VDD, 7 PIO1_8, 8 PIO0_2, 9 PIO0_3, 10 PIO0_4, 11 PIO0_5, 12 PIO1_9, 13 PIO3_4, 14 PIO3_5, 15 PIO0_6, 16 PIO0_7, 17 PIO0_8, 18 PIO0_9, 19 PIO0_10, 20 PIO1_10, 21 PIO0_11, 22 PIO1_0, 23 PIO1_1, 24 PIO1_2, 25 PIO1_3, 26 PIO1_4, 27 PIO1_11, 28 PIO3_2, 29 VDD, 30 PIO1_5, 31 PIO1_6, 32 PIO1_7, 33 VSS

## LPC1111FHN33-103
designator *  value LPC1111FHN33-103  Reference: U
ki_keywords: ARM, 32-bit, Cortex-M0, M0, NXP, microcontroller; ki_description: 32-bit ARM Cortex-M0 microcontroller, 8KB flash, 2KB SRAM; ki_fp_filters: *QFN*7x7mm*P0.65mm*; Footprint: Package_DFN_QFN:QFN-32-1EP_7x7mm_P0.65mm_EP4.7x4.7mm_ThermalVias; Datasheet: https://www.nxp.com/docs/en/data-sheet/LPC111X.pdf
pins: 1 PIO2_0, 2 PIO0_0, 3 PIO0_1, 4 XTALIN, 5 XTALOUT, 6 VDD, 7 PIO1_8, 8 PIO0_2, 9 PIO0_3, 10 PIO0_4, 11 PIO0_5, 12 PIO1_9, 13 PIO3_4, 14 PIO3_5, 15 PIO0_6, 16 PIO0_7, 17 PIO0_8, 18 PIO0_9, 19 PIO0_10, 20 PIO1_10, 21 PIO0_11, 22 PIO1_0, 23 PIO1_1, 24 PIO1_2, 25 PIO1_3, 26 PIO1_4, 27 PIO1_11, 28 PIO3_2, 29 VDD, 30 PIO1_5, 31 PIO1_6, 32 PIO1_7, 33 VSS

## LPC1111FHN33-201
designator *  value LPC1111FHN33-201  Reference: U
ki_keywords: ARM, 32-bit, Cortex-M0, M0, NXP, microcontroller; ki_description: 32-bit ARM Cortex-M0 microcontroller, 8KB flash, 4KB SRAM; ki_fp_filters: *QFN*7x7mm*P0.65mm*; Footprint: Package_DFN_QFN:QFN-32-1EP_7x7mm_P0.65mm_EP4.7x4.7mm_ThermalVias; Datasheet: https://www.nxp.com/docs/en/data-sheet/LPC111X.pdf
pins: 1 PIO2_0, 2 PIO0_0, 3 PIO0_1, 4 XTALIN, 5 XTALOUT, 6 VDD, 7 PIO1_8, 8 PIO0_2, 9 PIO0_3, 10 PIO0_4, 11 PIO0_5, 12 PIO1_9, 13 PIO3_4, 14 PIO3_5, 15 PIO0_6, 16 PIO0_7, 17 PIO0_8, 18 PIO0_9, 19 PIO0_10, 20 PIO1_10, 21 PIO0_11, 22 PIO1_0, 23 PIO1_1, 24 PIO1_2, 25 PIO1_3, 26 PIO1_4, 27 PIO1_11, 28 PIO3_2, 29 VDD, 30 PIO1_5, 31 PIO1_6, 32 PIO1_7, 33 VSS

## LPC1111FHN33-202
designator *  value LPC1111FHN33-202  Reference: U
ki_keywords: ARM, 32-bit, Cortex-M0, M0, NXP, microcontroller; ki_description: 32-bit ARM Cortex-M0 microcontroller, 8KB flash, 4KB SRAM, power profile; ki_fp_filters: *QFN*7x7mm*P0.65mm*; Footprint: Package_DFN_QFN:QFN-32-1EP_7x7mm_P0.65mm_EP4.7x4.7mm_ThermalVias; Datasheet: https://www.nxp.com/docs/en/data-sheet/LPC111X.pdf
pins: 1 PIO2_0, 2 PIO0_0, 3 PIO0_1, 4 XTALIN, 5 XTALOUT, 6 VDD, 7 PIO1_8, 8 PIO0_2, 9 PIO0_3, 10 PIO0_4, 11 PIO0_5, 12 PIO1_9, 13 PIO3_4, 14 PIO3_5, 15 PIO0_6, 16 PIO0_7, 17 PIO0_8, 18 PIO0_9, 19 PIO0_10, 20 PIO1_10, 21 PIO0_11, 22 PIO1_0, 23 PIO1_1, 24 PIO1_2, 25 PIO1_3, 26 PIO1_4, 27 PIO1_11, 28 PIO3_2, 29 VDD, 30 PIO1_5, 31 PIO1_6, 32 PIO1_7, 33 VSS

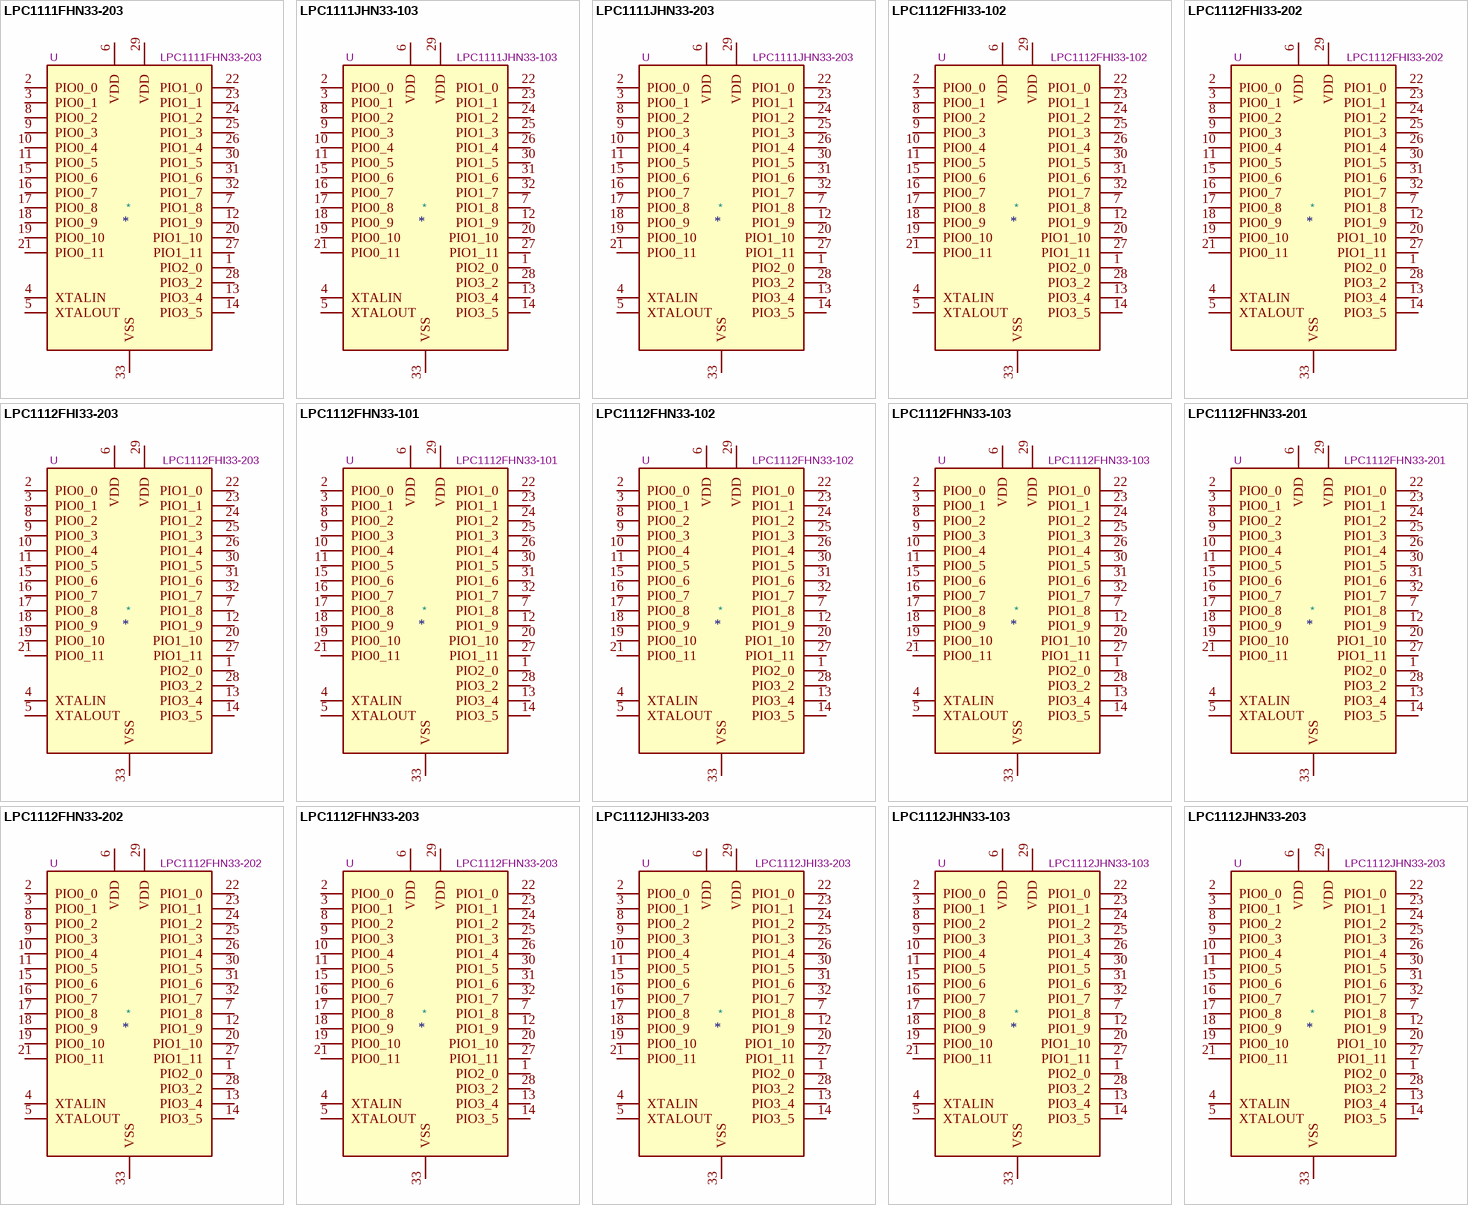
[diagram p2: symbols LPC1111FHN33-203 to LPC1112JHN33-203]

## LPC1111FHN33-203
designator *  value LPC1111FHN33-203  Reference: U
ki_keywords: ARM, 32-bit, Cortex-M0, M0, NXP, microcontroller; ki_description: 32-bit ARM Cortex-M0 microcontroller, 8KB flash, 4KB SRAM; ki_fp_filters: *QFN*7x7mm*P0.65mm*; Footprint: Package_DFN_QFN:QFN-32-1EP_7x7mm_P0.65mm_EP4.7x4.7mm_ThermalVias; Datasheet: https://www.nxp.com/docs/en/data-sheet/LPC111X.pdf
pins: 1 PIO2_0, 2 PIO0_0, 3 PIO0_1, 4 XTALIN, 5 XTALOUT, 6 VDD, 7 PIO1_8, 8 PIO0_2, 9 PIO0_3, 10 PIO0_4, 11 PIO0_5, 12 PIO1_9, 13 PIO3_4, 14 PIO3_5, 15 PIO0_6, 16 PIO0_7, 17 PIO0_8, 18 PIO0_9, 19 PIO0_10, 20 PIO1_10, 21 PIO0_11, 22 PIO1_0, 23 PIO1_1, 24 PIO1_2, 25 PIO1_3, 26 PIO1_4, 27 PIO1_11, 28 PIO3_2, 29 VDD, 30 PIO1_5, 31 PIO1_6, 32 PIO1_7, 33 VSS

## LPC1111JHN33-103
designator *  value LPC1111JHN33-103  Reference: U
ki_keywords: ARM, 32-bit, Cortex-M0, M0, NXP, microcontroller; ki_description: 32-bit ARM Cortex-M0 microcontroller, 8KB flash, 2KB SRAM; ki_fp_filters: *QFN*7x7mm*P0.65mm*; Footprint: Package_DFN_QFN:QFN-32-1EP_7x7mm_P0.65mm_EP4.7x4.7mm_ThermalVias; Datasheet: https://www.nxp.com/docs/en/data-sheet/LPC111X.pdf
pins: 1 PIO2_0, 2 PIO0_0, 3 PIO0_1, 4 XTALIN, 5 XTALOUT, 6 VDD, 7 PIO1_8, 8 PIO0_2, 9 PIO0_3, 10 PIO0_4, 11 PIO0_5, 12 PIO1_9, 13 PIO3_4, 14 PIO3_5, 15 PIO0_6, 16 PIO0_7, 17 PIO0_8, 18 PIO0_9, 19 PIO0_10, 20 PIO1_10, 21 PIO0_11, 22 PIO1_0, 23 PIO1_1, 24 PIO1_2, 25 PIO1_3, 26 PIO1_4, 27 PIO1_11, 28 PIO3_2, 29 VDD, 30 PIO1_5, 31 PIO1_6, 32 PIO1_7, 33 VSS

## LPC1111JHN33-203
designator *  value LPC1111JHN33-203  Reference: U
ki_keywords: ARM, 32-bit, Cortex-M0, M0, NXP, microcontroller; ki_description: 32-bit ARM Cortex-M0 microcontroller, 8KB flash, 4KB SRAM; ki_fp_filters: *QFN*7x7mm*P0.65mm*; Footprint: Package_DFN_QFN:QFN-32-1EP_7x7mm_P0.65mm_EP4.7x4.7mm_ThermalVias; Datasheet: https://www.nxp.com/docs/en/data-sheet/LPC111X.pdf
pins: 1 PIO2_0, 2 PIO0_0, 3 PIO0_1, 4 XTALIN, 5 XTALOUT, 6 VDD, 7 PIO1_8, 8 PIO0_2, 9 PIO0_3, 10 PIO0_4, 11 PIO0_5, 12 PIO1_9, 13 PIO3_4, 14 PIO3_5, 15 PIO0_6, 16 PIO0_7, 17 PIO0_8, 18 PIO0_9, 19 PIO0_10, 20 PIO1_10, 21 PIO0_11, 22 PIO1_0, 23 PIO1_1, 24 PIO1_2, 25 PIO1_3, 26 PIO1_4, 27 PIO1_11, 28 PIO3_2, 29 VDD, 30 PIO1_5, 31 PIO1_6, 32 PIO1_7, 33 VSS

## LPC1112FHI33-102
designator *  value LPC1112FHI33-102  Reference: U
ki_keywords: ARM, 32-bit, Cortex-M0, M0, NXP, microcontroller; ki_description: 32-bit ARM Cortex-M0 microcontroller, 16KB flash, 2KB SRAM, power profile; ki_fp_filters: *QFN*5x5mm*P0.5mm*; Footprint: Package_DFN_QFN:QFN-32-1EP_5x5mm_P0.5mm_EP3.45x3.45mm; Datasheet: https://www.nxp.com/docs/en/data-sheet/LPC111X.pdf
pins: 1 PIO2_0, 2 PIO0_0, 3 PIO0_1, 4 XTALIN, 5 XTALOUT, 6 VDD, 7 PIO1_8, 8 PIO0_2, 9 PIO0_3, 10 PIO0_4, 11 PIO0_5, 12 PIO1_9, 13 PIO3_4, 14 PIO3_5, 15 PIO0_6, 16 PIO0_7, 17 PIO0_8, 18 PIO0_9, 19 PIO0_10, 20 PIO1_10, 21 PIO0_11, 22 PIO1_0, 23 PIO1_1, 24 PIO1_2, 25 PIO1_3, 26 PIO1_4, 27 PIO1_11, 28 PIO3_2, 29 VDD, 30 PIO1_5, 31 PIO1_6, 32 PIO1_7, 33 VSS

## LPC1112FHI33-202
designator *  value LPC1112FHI33-202  Reference: U
ki_keywords: ARM, 32-bit, Cortex-M0, M0, NXP, microcontroller; ki_description: 32-bit ARM Cortex-M0 microcontroller, 16KB flash, 4KB SRAM, power profile; ki_fp_filters: *QFN*5x5mm*P0.5mm*; Footprint: Package_DFN_QFN:QFN-32-1EP_5x5mm_P0.5mm_EP3.45x3.45mm; Datasheet: https://www.nxp.com/docs/en/data-sheet/LPC111X.pdf
pins: 1 PIO2_0, 2 PIO0_0, 3 PIO0_1, 4 XTALIN, 5 XTALOUT, 6 VDD, 7 PIO1_8, 8 PIO0_2, 9 PIO0_3, 10 PIO0_4, 11 PIO0_5, 12 PIO1_9, 13 PIO3_4, 14 PIO3_5, 15 PIO0_6, 16 PIO0_7, 17 PIO0_8, 18 PIO0_9, 19 PIO0_10, 20 PIO1_10, 21 PIO0_11, 22 PIO1_0, 23 PIO1_1, 24 PIO1_2, 25 PIO1_3, 26 PIO1_4, 27 PIO1_11, 28 PIO3_2, 29 VDD, 30 PIO1_5, 31 PIO1_6, 32 PIO1_7, 33 VSS

## LPC1112FHI33-203
designator *  value LPC1112FHI33-203  Reference: U
ki_keywords: ARM, 32-bit, Cortex-M0, M0, NXP, microcontroller; ki_description: 32-bit ARM Cortex-M0 microcontroller, 16KB flash, 4KB SRAM, power profile; ki_fp_filters: *QFN*5x5mm*P0.5mm*; Footprint: Package_DFN_QFN:QFN-32-1EP_5x5mm_P0.5mm_EP3.45x3.45mm; Datasheet: https://www.nxp.com/docs/en/data-sheet/LPC111X.pdf
pins: 1 PIO2_0, 2 PIO0_0, 3 PIO0_1, 4 XTALIN, 5 XTALOUT, 6 VDD, 7 PIO1_8, 8 PIO0_2, 9 PIO0_3, 10 PIO0_4, 11 PIO0_5, 12 PIO1_9, 13 PIO3_4, 14 PIO3_5, 15 PIO0_6, 16 PIO0_7, 17 PIO0_8, 18 PIO0_9, 19 PIO0_10, 20 PIO1_10, 21 PIO0_11, 22 PIO1_0, 23 PIO1_1, 24 PIO1_2, 25 PIO1_3, 26 PIO1_4, 27 PIO1_11, 28 PIO3_2, 29 VDD, 30 PIO1_5, 31 PIO1_6, 32 PIO1_7, 33 VSS

## LPC1112FHN33-101
designator *  value LPC1112FHN33-101  Reference: U
ki_keywords: ARM, 32-bit, Cortex-M0, M0, NXP, microcontroller; ki_description: 32-bit ARM Cortex-M0 microcontroller, 16KB flash, 2KB SRAM; ki_fp_filters: *QFN*7x7mm*P0.65mm*; Footprint: Package_DFN_QFN:QFN-32-1EP_7x7mm_P0.65mm_EP4.7x4.7mm_ThermalVias; Datasheet: https://www.nxp.com/docs/en/data-sheet/LPC111X.pdf
pins: 1 PIO2_0, 2 PIO0_0, 3 PIO0_1, 4 XTALIN, 5 XTALOUT, 6 VDD, 7 PIO1_8, 8 PIO0_2, 9 PIO0_3, 10 PIO0_4, 11 PIO0_5, 12 PIO1_9, 13 PIO3_4, 14 PIO3_5, 15 PIO0_6, 16 PIO0_7, 17 PIO0_8, 18 PIO0_9, 19 PIO0_10, 20 PIO1_10, 21 PIO0_11, 22 PIO1_0, 23 PIO1_1, 24 PIO1_2, 25 PIO1_3, 26 PIO1_4, 27 PIO1_11, 28 PIO3_2, 29 VDD, 30 PIO1_5, 31 PIO1_6, 32 PIO1_7, 33 VSS

## LPC1112FHN33-102
designator *  value LPC1112FHN33-102  Reference: U
ki_keywords: ARM, 32-bit, Cortex-M0, M0, NXP, microcontroller; ki_description: 32-bit ARM Cortex-M0 microcontroller, 16KB flash, 2KB SRAM, power profile; ki_fp_filters: *QFN*7x7mm*P0.65mm*; Footprint: Package_DFN_QFN:QFN-32-1EP_7x7mm_P0.65mm_EP4.7x4.7mm_ThermalVias; Datasheet: https://www.nxp.com/docs/en/data-sheet/LPC111X.pdf
pins: 1 PIO2_0, 2 PIO0_0, 3 PIO0_1, 4 XTALIN, 5 XTALOUT, 6 VDD, 7 PIO1_8, 8 PIO0_2, 9 PIO0_3, 10 PIO0_4, 11 PIO0_5, 12 PIO1_9, 13 PIO3_4, 14 PIO3_5, 15 PIO0_6, 16 PIO0_7, 17 PIO0_8, 18 PIO0_9, 19 PIO0_10, 20 PIO1_10, 21 PIO0_11, 22 PIO1_0, 23 PIO1_1, 24 PIO1_2, 25 PIO1_3, 26 PIO1_4, 27 PIO1_11, 28 PIO3_2, 29 VDD, 30 PIO1_5, 31 PIO1_6, 32 PIO1_7, 33 VSS

## LPC1112FHN33-103
designator *  value LPC1112FHN33-103  Reference: U
ki_keywords: ARM, 32-bit, Cortex-M0, M0, NXP, microcontroller; ki_description: 32-bit ARM Cortex-M0 microcontroller, 16KB flash, 2KB SRAM; ki_fp_filters: *QFN*7x7mm*P0.65mm*; Footprint: Package_DFN_QFN:QFN-32-1EP_7x7mm_P0.65mm_EP4.7x4.7mm_ThermalVias; Datasheet: https://www.nxp.com/docs/en/data-sheet/LPC111X.pdf
pins: 1 PIO2_0, 2 PIO0_0, 3 PIO0_1, 4 XTALIN, 5 XTALOUT, 6 VDD, 7 PIO1_8, 8 PIO0_2, 9 PIO0_3, 10 PIO0_4, 11 PIO0_5, 12 PIO1_9, 13 PIO3_4, 14 PIO3_5, 15 PIO0_6, 16 PIO0_7, 17 PIO0_8, 18 PIO0_9, 19 PIO0_10, 20 PIO1_10, 21 PIO0_11, 22 PIO1_0, 23 PIO1_1, 24 PIO1_2, 25 PIO1_3, 26 PIO1_4, 27 PIO1_11, 28 PIO3_2, 29 VDD, 30 PIO1_5, 31 PIO1_6, 32 PIO1_7, 33 VSS

## LPC1112FHN33-201
designator *  value LPC1112FHN33-201  Reference: U
ki_keywords: ARM, 32-bit, Cortex-M0, M0, NXP, microcontroller; ki_description: 32-bit ARM Cortex-M0 microcontroller, 16KB flash, 4KB SRAM; ki_fp_filters: *QFN*7x7mm*P0.65mm*; Footprint: Package_DFN_QFN:QFN-32-1EP_7x7mm_P0.65mm_EP4.7x4.7mm_ThermalVias; Datasheet: https://www.nxp.com/docs/en/data-sheet/LPC111X.pdf
pins: 1 PIO2_0, 2 PIO0_0, 3 PIO0_1, 4 XTALIN, 5 XTALOUT, 6 VDD, 7 PIO1_8, 8 PIO0_2, 9 PIO0_3, 10 PIO0_4, 11 PIO0_5, 12 PIO1_9, 13 PIO3_4, 14 PIO3_5, 15 PIO0_6, 16 PIO0_7, 17 PIO0_8, 18 PIO0_9, 19 PIO0_10, 20 PIO1_10, 21 PIO0_11, 22 PIO1_0, 23 PIO1_1, 24 PIO1_2, 25 PIO1_3, 26 PIO1_4, 27 PIO1_11, 28 PIO3_2, 29 VDD, 30 PIO1_5, 31 PIO1_6, 32 PIO1_7, 33 VSS

## LPC1112FHN33-202
designator *  value LPC1112FHN33-202  Reference: U
ki_keywords: ARM, 32-bit, Cortex-M0, M0, NXP, microcontroller; ki_description: 32-bit ARM Cortex-M0 microcontroller, 16KB flash, 4KB SRAM, power profile; ki_fp_filters: *QFN*7x7mm*P0.65mm*; Footprint: Package_DFN_QFN:QFN-32-1EP_7x7mm_P0.65mm_EP4.7x4.7mm_ThermalVias; Datasheet: https://www.nxp.com/docs/en/data-sheet/LPC111X.pdf
pins: 1 PIO2_0, 2 PIO0_0, 3 PIO0_1, 4 XTALIN, 5 XTALOUT, 6 VDD, 7 PIO1_8, 8 PIO0_2, 9 PIO0_3, 10 PIO0_4, 11 PIO0_5, 12 PIO1_9, 13 PIO3_4, 14 PIO3_5, 15 PIO0_6, 16 PIO0_7, 17 PIO0_8, 18 PIO0_9, 19 PIO0_10, 20 PIO1_10, 21 PIO0_11, 22 PIO1_0, 23 PIO1_1, 24 PIO1_2, 25 PIO1_3, 26 PIO1_4, 27 PIO1_11, 28 PIO3_2, 29 VDD, 30 PIO1_5, 31 PIO1_6, 32 PIO1_7, 33 VSS

## LPC1112FHN33-203
designator *  value LPC1112FHN33-203  Reference: U
ki_keywords: ARM, 32-bit, Cortex-M0, M0, NXP, microcontroller; ki_description: 32-bit ARM Cortex-M0 microcontroller, 16KB flash, 4KB SRAM; ki_fp_filters: *QFN*7x7mm*P0.65mm*; Footprint: Package_DFN_QFN:QFN-32-1EP_7x7mm_P0.65mm_EP4.7x4.7mm_ThermalVias; Datasheet: https://www.nxp.com/docs/en/data-sheet/LPC111X.pdf
pins: 1 PIO2_0, 2 PIO0_0, 3 PIO0_1, 4 XTALIN, 5 XTALOUT, 6 VDD, 7 PIO1_8, 8 PIO0_2, 9 PIO0_3, 10 PIO0_4, 11 PIO0_5, 12 PIO1_9, 13 PIO3_4, 14 PIO3_5, 15 PIO0_6, 16 PIO0_7, 17 PIO0_8, 18 PIO0_9, 19 PIO0_10, 20 PIO1_10, 21 PIO0_11, 22 PIO1_0, 23 PIO1_1, 24 PIO1_2, 25 PIO1_3, 26 PIO1_4, 27 PIO1_11, 28 PIO3_2, 29 VDD, 30 PIO1_5, 31 PIO1_6, 32 PIO1_7, 33 VSS

## LPC1112JHI33-203
designator *  value LPC1112JHI33-203  Reference: U
ki_keywords: ARM, 32-bit, Cortex-M0, M0, NXP, microcontroller; ki_description: 32-bit ARM Cortex-M0 microcontroller, 16KB flash, 4KB SRAM, power profile; ki_fp_filters: *QFN*5x5mm*P0.5mm*; Footprint: Package_DFN_QFN:QFN-32-1EP_5x5mm_P0.5mm_EP3.45x3.45mm; Datasheet: https://www.nxp.com/docs/en/data-sheet/LPC111X.pdf
pins: 1 PIO2_0, 2 PIO0_0, 3 PIO0_1, 4 XTALIN, 5 XTALOUT, 6 VDD, 7 PIO1_8, 8 PIO0_2, 9 PIO0_3, 10 PIO0_4, 11 PIO0_5, 12 PIO1_9, 13 PIO3_4, 14 PIO3_5, 15 PIO0_6, 16 PIO0_7, 17 PIO0_8, 18 PIO0_9, 19 PIO0_10, 20 PIO1_10, 21 PIO0_11, 22 PIO1_0, 23 PIO1_1, 24 PIO1_2, 25 PIO1_3, 26 PIO1_4, 27 PIO1_11, 28 PIO3_2, 29 VDD, 30 PIO1_5, 31 PIO1_6, 32 PIO1_7, 33 VSS

## LPC1112JHN33-103
designator *  value LPC1112JHN33-103  Reference: U
ki_keywords: ARM, 32-bit, Cortex-M0, M0, NXP, microcontroller; ki_description: 32-bit ARM Cortex-M0 microcontroller, 16KB flash, 2KB SRAM; ki_fp_filters: *QFN*7x7mm*P0.65mm*; Footprint: Package_DFN_QFN:QFN-32-1EP_7x7mm_P0.65mm_EP4.7x4.7mm_ThermalVias; Datasheet: https://www.nxp.com/docs/en/data-sheet/LPC111X.pdf
pins: 1 PIO2_0, 2 PIO0_0, 3 PIO0_1, 4 XTALIN, 5 XTALOUT, 6 VDD, 7 PIO1_8, 8 PIO0_2, 9 PIO0_3, 10 PIO0_4, 11 PIO0_5, 12 PIO1_9, 13 PIO3_4, 14 PIO3_5, 15 PIO0_6, 16 PIO0_7, 17 PIO0_8, 18 PIO0_9, 19 PIO0_10, 20 PIO1_10, 21 PIO0_11, 22 PIO1_0, 23 PIO1_1, 24 PIO1_2, 25 PIO1_3, 26 PIO1_4, 27 PIO1_11, 28 PIO3_2, 29 VDD, 30 PIO1_5, 31 PIO1_6, 32 PIO1_7, 33 VSS

## LPC1112JHN33-203
designator *  value LPC1112JHN33-203  Reference: U
ki_keywords: ARM, 32-bit, Cortex-M0, M0, NXP, microcontroller; ki_description: 32-bit ARM Cortex-M0 microcontroller, 16KB flash, 4KB SRAM; ki_fp_filters: *QFN*7x7mm*P0.65mm*; Footprint: Package_DFN_QFN:QFN-32-1EP_7x7mm_P0.65mm_EP4.7x4.7mm_ThermalVias; Datasheet: https://www.nxp.com/docs/en/data-sheet/LPC111X.pdf
pins: 1 PIO2_0, 2 PIO0_0, 3 PIO0_1, 4 XTALIN, 5 XTALOUT, 6 VDD, 7 PIO1_8, 8 PIO0_2, 9 PIO0_3, 10 PIO0_4, 11 PIO0_5, 12 PIO1_9, 13 PIO3_4, 14 PIO3_5, 15 PIO0_6, 16 PIO0_7, 17 PIO0_8, 18 PIO0_9, 19 PIO0_10, 20 PIO1_10, 21 PIO0_11, 22 PIO1_0, 23 PIO1_1, 24 PIO1_2, 25 PIO1_3, 26 PIO1_4, 27 PIO1_11, 28 PIO3_2, 29 VDD, 30 PIO1_5, 31 PIO1_6, 32 PIO1_7, 33 VSS

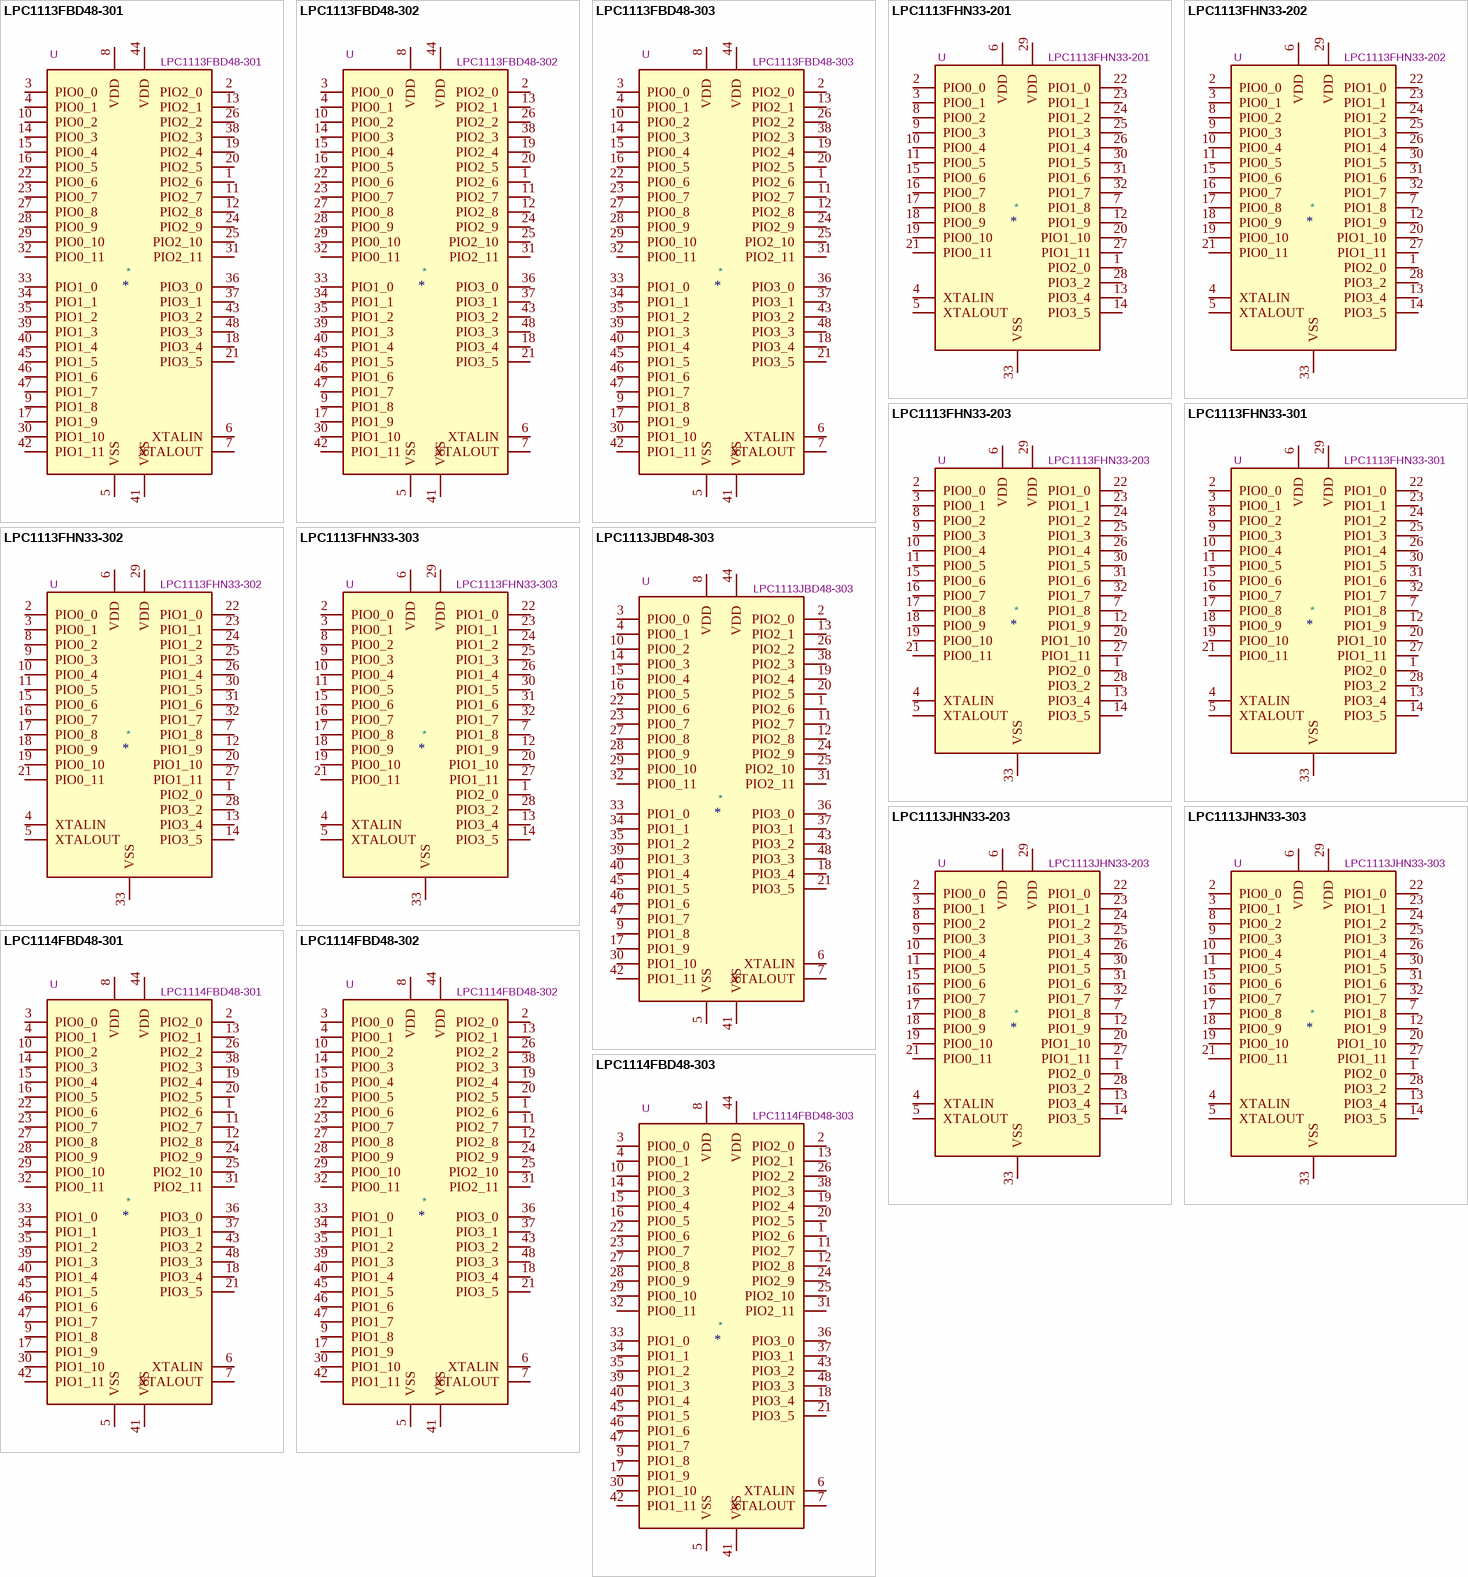
[diagram p3: symbols LPC1113FBD48-301 to LPC1114FBD48-303]

## LPC1113FBD48-301
designator *  value LPC1113FBD48-301  Reference: U
ki_keywords: ARM, 32-bit, Cortex-M0, M0, NXP, microcontroller; ki_description: 32-bit ARM Cortex-M0 microcontroller, 24KB flash, 8KB SRAM; ki_fp_filters: *QFP*7x7mm*P0.5mm*; Footprint: Package_QFP:LQFP-48_7x7mm_P0.5mm; Datasheet: http://www.nxp.com/docs/en/data-sheet/LPC111X.pdf
pins: 1 PIO2_6, 2 PIO2_0, 3 PIO0_0, 4 PIO0_1, 5 VSS, 6 XTALIN, 7 XTALOUT, 8 VDD, 9 PIO1_8, 10 PIO0_2, 11 PIO2_7, 12 PIO2_8, 13 PIO2_1, 14 PIO0_3, 15 PIO0_4, 16 PIO0_5, 17 PIO1_9, 18 PIO3_4, 19 PIO2_4, 20 PIO2_5, 21 PIO3_5, 22 PIO0_6, 23 PIO0_7, 24 PIO2_9, 25 PIO2_10, 26 PIO2_2, 27 PIO0_8, 28 PIO0_9, 29 PIO0_10, 30 PIO1_10, 31 PIO2_11, 32 PIO0_11, 33 PIO1_0, 34 PIO1_1, 35 PIO1_2, 36 PIO3_0, 37 PIO3_1, 38 PIO2_3, 39 PIO1_3, 40 PIO1_4, 41 VSS, 42 PIO1_11, 43 PIO3_2, 44 VDD, 45 PIO1_5, 46 PIO1_6, 47 PIO1_7, 48 PIO3_3

## LPC1113FBD48-302
designator *  value LPC1113FBD48-302  Reference: U
ki_keywords: ARM, 32-bit, Cortex-M0, M0, NXP, microcontroller; ki_description: 32-bit ARM Cortex-M0 microcontroller, 24KB flash, 8KB SRAM, power profile; ki_fp_filters: *QFP*7x7mm*P0.5mm*; Footprint: Package_QFP:LQFP-48_7x7mm_P0.5mm; Datasheet: http://www.nxp.com/docs/en/data-sheet/LPC111X.pdf
pins: 1 PIO2_6, 2 PIO2_0, 3 PIO0_0, 4 PIO0_1, 5 VSS, 6 XTALIN, 7 XTALOUT, 8 VDD, 9 PIO1_8, 10 PIO0_2, 11 PIO2_7, 12 PIO2_8, 13 PIO2_1, 14 PIO0_3, 15 PIO0_4, 16 PIO0_5, 17 PIO1_9, 18 PIO3_4, 19 PIO2_4, 20 PIO2_5, 21 PIO3_5, 22 PIO0_6, 23 PIO0_7, 24 PIO2_9, 25 PIO2_10, 26 PIO2_2, 27 PIO0_8, 28 PIO0_9, 29 PIO0_10, 30 PIO1_10, 31 PIO2_11, 32 PIO0_11, 33 PIO1_0, 34 PIO1_1, 35 PIO1_2, 36 PIO3_0, 37 PIO3_1, 38 PIO2_3, 39 PIO1_3, 40 PIO1_4, 41 VSS, 42 PIO1_11, 43 PIO3_2, 44 VDD, 45 PIO1_5, 46 PIO1_6, 47 PIO1_7, 48 PIO3_3

## LPC1113FBD48-303
designator *  value LPC1113FBD48-303  Reference: U
ki_keywords: ARM, 32-bit, Cortex-M0, M0, NXP, microcontroller; ki_description: 32-bit ARM Cortex-M0 microcontroller, 24KB flash, 8KB SRAM, power profile; ki_fp_filters: *QFP*7x7mm*P0.5mm*; Footprint: Package_QFP:LQFP-48_7x7mm_P0.5mm; Datasheet: http://www.nxp.com/docs/en/data-sheet/LPC111X.pdf
pins: 1 PIO2_6, 2 PIO2_0, 3 PIO0_0, 4 PIO0_1, 5 VSS, 6 XTALIN, 7 XTALOUT, 8 VDD, 9 PIO1_8, 10 PIO0_2, 11 PIO2_7, 12 PIO2_8, 13 PIO2_1, 14 PIO0_3, 15 PIO0_4, 16 PIO0_5, 17 PIO1_9, 18 PIO3_4, 19 PIO2_4, 20 PIO2_5, 21 PIO3_5, 22 PIO0_6, 23 PIO0_7, 24 PIO2_9, 25 PIO2_10, 26 PIO2_2, 27 PIO0_8, 28 PIO0_9, 29 PIO0_10, 30 PIO1_10, 31 PIO2_11, 32 PIO0_11, 33 PIO1_0, 34 PIO1_1, 35 PIO1_2, 36 PIO3_0, 37 PIO3_1, 38 PIO2_3, 39 PIO1_3, 40 PIO1_4, 41 VSS, 42 PIO1_11, 43 PIO3_2, 44 VDD, 45 PIO1_5, 46 PIO1_6, 47 PIO1_7, 48 PIO3_3

## LPC1113FHN33-201
designator *  value LPC1113FHN33-201  Reference: U
ki_keywords: ARM, 32-bit, Cortex-M0, M0, NXP, microcontroller; ki_description: 32-bit ARM Cortex-M0 microcontroller, 24KB flash, 4KB SRAM; ki_fp_filters: *QFN*7x7mm*P0.65mm*; Footprint: Package_DFN_QFN:QFN-32-1EP_7x7mm_P0.65mm_EP4.7x4.7mm_ThermalVias; Datasheet: https://www.nxp.com/docs/en/data-sheet/LPC111X.pdf
pins: 1 PIO2_0, 2 PIO0_0, 3 PIO0_1, 4 XTALIN, 5 XTALOUT, 6 VDD, 7 PIO1_8, 8 PIO0_2, 9 PIO0_3, 10 PIO0_4, 11 PIO0_5, 12 PIO1_9, 13 PIO3_4, 14 PIO3_5, 15 PIO0_6, 16 PIO0_7, 17 PIO0_8, 18 PIO0_9, 19 PIO0_10, 20 PIO1_10, 21 PIO0_11, 22 PIO1_0, 23 PIO1_1, 24 PIO1_2, 25 PIO1_3, 26 PIO1_4, 27 PIO1_11, 28 PIO3_2, 29 VDD, 30 PIO1_5, 31 PIO1_6, 32 PIO1_7, 33 VSS

## LPC1113FHN33-202
designator *  value LPC1113FHN33-202  Reference: U
ki_keywords: ARM, 32-bit, Cortex-M0, M0, NXP, microcontroller; ki_description: 32-bit ARM Cortex-M0 microcontroller, 24KB flash, 4KB SRAM, power profile; ki_fp_filters: *QFN*7x7mm*P0.65mm*; Footprint: Package_DFN_QFN:QFN-32-1EP_7x7mm_P0.65mm_EP4.7x4.7mm_ThermalVias; Datasheet: https://www.nxp.com/docs/en/data-sheet/LPC111X.pdf
pins: 1 PIO2_0, 2 PIO0_0, 3 PIO0_1, 4 XTALIN, 5 XTALOUT, 6 VDD, 7 PIO1_8, 8 PIO0_2, 9 PIO0_3, 10 PIO0_4, 11 PIO0_5, 12 PIO1_9, 13 PIO3_4, 14 PIO3_5, 15 PIO0_6, 16 PIO0_7, 17 PIO0_8, 18 PIO0_9, 19 PIO0_10, 20 PIO1_10, 21 PIO0_11, 22 PIO1_0, 23 PIO1_1, 24 PIO1_2, 25 PIO1_3, 26 PIO1_4, 27 PIO1_11, 28 PIO3_2, 29 VDD, 30 PIO1_5, 31 PIO1_6, 32 PIO1_7, 33 VSS

## LPC1113FHN33-203
designator *  value LPC1113FHN33-203  Reference: U
ki_keywords: ARM, 32-bit, Cortex-M0, M0, NXP, microcontroller; ki_description: 32-bit ARM Cortex-M0 microcontroller, 24KB flash, 4KB SRAM; ki_fp_filters: *QFN*7x7mm*P0.65mm*; Footprint: Package_DFN_QFN:QFN-32-1EP_7x7mm_P0.65mm_EP4.7x4.7mm_ThermalVias; Datasheet: https://www.nxp.com/docs/en/data-sheet/LPC111X.pdf
pins: 1 PIO2_0, 2 PIO0_0, 3 PIO0_1, 4 XTALIN, 5 XTALOUT, 6 VDD, 7 PIO1_8, 8 PIO0_2, 9 PIO0_3, 10 PIO0_4, 11 PIO0_5, 12 PIO1_9, 13 PIO3_4, 14 PIO3_5, 15 PIO0_6, 16 PIO0_7, 17 PIO0_8, 18 PIO0_9, 19 PIO0_10, 20 PIO1_10, 21 PIO0_11, 22 PIO1_0, 23 PIO1_1, 24 PIO1_2, 25 PIO1_3, 26 PIO1_4, 27 PIO1_11, 28 PIO3_2, 29 VDD, 30 PIO1_5, 31 PIO1_6, 32 PIO1_7, 33 VSS

## LPC1113FHN33-301
designator *  value LPC1113FHN33-301  Reference: U
ki_keywords: ARM, 32-bit, Cortex-M0, M0, NXP, microcontroller; ki_description: 32-bit ARM Cortex-M0 microcontroller, 24KB flash, 8KB SRAM; ki_fp_filters: *QFN*7x7mm*P0.65mm*; Footprint: Package_DFN_QFN:QFN-32-1EP_7x7mm_P0.65mm_EP4.7x4.7mm_ThermalVias; Datasheet: https://www.nxp.com/docs/en/data-sheet/LPC111X.pdf
pins: 1 PIO2_0, 2 PIO0_0, 3 PIO0_1, 4 XTALIN, 5 XTALOUT, 6 VDD, 7 PIO1_8, 8 PIO0_2, 9 PIO0_3, 10 PIO0_4, 11 PIO0_5, 12 PIO1_9, 13 PIO3_4, 14 PIO3_5, 15 PIO0_6, 16 PIO0_7, 17 PIO0_8, 18 PIO0_9, 19 PIO0_10, 20 PIO1_10, 21 PIO0_11, 22 PIO1_0, 23 PIO1_1, 24 PIO1_2, 25 PIO1_3, 26 PIO1_4, 27 PIO1_11, 28 PIO3_2, 29 VDD, 30 PIO1_5, 31 PIO1_6, 32 PIO1_7, 33 VSS

## LPC1113FHN33-302
designator *  value LPC1113FHN33-302  Reference: U
ki_keywords: ARM, 32-bit, Cortex-M0, M0, NXP, microcontroller; ki_description: 32-bit ARM Cortex-M0 microcontroller, 24KB flash, 8KB SRAM, power profile; ki_fp_filters: *QFN*7x7mm*P0.65mm*; Footprint: Package_DFN_QFN:QFN-32-1EP_7x7mm_P0.65mm_EP4.7x4.7mm_ThermalVias; Datasheet: https://www.nxp.com/docs/en/data-sheet/LPC111X.pdf
pins: 1 PIO2_0, 2 PIO0_0, 3 PIO0_1, 4 XTALIN, 5 XTALOUT, 6 VDD, 7 PIO1_8, 8 PIO0_2, 9 PIO0_3, 10 PIO0_4, 11 PIO0_5, 12 PIO1_9, 13 PIO3_4, 14 PIO3_5, 15 PIO0_6, 16 PIO0_7, 17 PIO0_8, 18 PIO0_9, 19 PIO0_10, 20 PIO1_10, 21 PIO0_11, 22 PIO1_0, 23 PIO1_1, 24 PIO1_2, 25 PIO1_3, 26 PIO1_4, 27 PIO1_11, 28 PIO3_2, 29 VDD, 30 PIO1_5, 31 PIO1_6, 32 PIO1_7, 33 VSS

## LPC1113FHN33-303
designator *  value LPC1113FHN33-303  Reference: U
ki_keywords: ARM, 32-bit, Cortex-M0, M0, NXP, microcontroller; ki_description: 32-bit ARM Cortex-M0 microcontroller, 24KB flash, 8KB SRAM; ki_fp_filters: *QFN*7x7mm*P0.65mm*; Footprint: Package_DFN_QFN:QFN-32-1EP_7x7mm_P0.65mm_EP4.7x4.7mm_ThermalVias; Datasheet: https://www.nxp.com/docs/en/data-sheet/LPC111X.pdf
pins: 1 PIO2_0, 2 PIO0_0, 3 PIO0_1, 4 XTALIN, 5 XTALOUT, 6 VDD, 7 PIO1_8, 8 PIO0_2, 9 PIO0_3, 10 PIO0_4, 11 PIO0_5, 12 PIO1_9, 13 PIO3_4, 14 PIO3_5, 15 PIO0_6, 16 PIO0_7, 17 PIO0_8, 18 PIO0_9, 19 PIO0_10, 20 PIO1_10, 21 PIO0_11, 22 PIO1_0, 23 PIO1_1, 24 PIO1_2, 25 PIO1_3, 26 PIO1_4, 27 PIO1_11, 28 PIO3_2, 29 VDD, 30 PIO1_5, 31 PIO1_6, 32 PIO1_7, 33 VSS

## LPC1113JBD48-303
designator *  value LPC1113JBD48-303  Reference: U
ki_keywords: ARM, 32-bit, Cortex-M0, M0, NXP, microcontroller; ki_description: 32-bit ARM Cortex-M0 microcontroller, 24KB flash, 8KB SRAM, power profile; ki_fp_filters: *QFP*7x7mm*P0.5mm*; Footprint: Package_QFP:LQFP-48_7x7mm_P0.5mm; Datasheet: http://www.nxp.com/docs/en/data-sheet/LPC111X.pdf
pins: 1 PIO2_6, 2 PIO2_0, 3 PIO0_0, 4 PIO0_1, 5 VSS, 6 XTALIN, 7 XTALOUT, 8 VDD, 9 PIO1_8, 10 PIO0_2, 11 PIO2_7, 12 PIO2_8, 13 PIO2_1, 14 PIO0_3, 15 PIO0_4, 16 PIO0_5, 17 PIO1_9, 18 PIO3_4, 19 PIO2_4, 20 PIO2_5, 21 PIO3_5, 22 PIO0_6, 23 PIO0_7, 24 PIO2_9, 25 PIO2_10, 26 PIO2_2, 27 PIO0_8, 28 PIO0_9, 29 PIO0_10, 30 PIO1_10, 31 PIO2_11, 32 PIO0_11, 33 PIO1_0, 34 PIO1_1, 35 PIO1_2, 36 PIO3_0, 37 PIO3_1, 38 PIO2_3, 39 PIO1_3, 40 PIO1_4, 41 VSS, 42 PIO1_11, 43 PIO3_2, 44 VDD, 45 PIO1_5, 46 PIO1_6, 47 PIO1_7, 48 PIO3_3

## LPC1113JHN33-203
designator *  value LPC1113JHN33-203  Reference: U
ki_keywords: ARM, 32-bit, Cortex-M0, M0, NXP, microcontroller; ki_description: 32-bit ARM Cortex-M0 microcontroller, 24KB flash, 4KB SRAM; ki_fp_filters: *QFN*7x7mm*P0.65mm*; Footprint: Package_DFN_QFN:QFN-32-1EP_7x7mm_P0.65mm_EP4.7x4.7mm_ThermalVias; Datasheet: https://www.nxp.com/docs/en/data-sheet/LPC111X.pdf
pins: 1 PIO2_0, 2 PIO0_0, 3 PIO0_1, 4 XTALIN, 5 XTALOUT, 6 VDD, 7 PIO1_8, 8 PIO0_2, 9 PIO0_3, 10 PIO0_4, 11 PIO0_5, 12 PIO1_9, 13 PIO3_4, 14 PIO3_5, 15 PIO0_6, 16 PIO0_7, 17 PIO0_8, 18 PIO0_9, 19 PIO0_10, 20 PIO1_10, 21 PIO0_11, 22 PIO1_0, 23 PIO1_1, 24 PIO1_2, 25 PIO1_3, 26 PIO1_4, 27 PIO1_11, 28 PIO3_2, 29 VDD, 30 PIO1_5, 31 PIO1_6, 32 PIO1_7, 33 VSS

## LPC1113JHN33-303
designator *  value LPC1113JHN33-303  Reference: U
ki_keywords: ARM, 32-bit, Cortex-M0, M0, NXP, microcontroller; ki_description: 32-bit ARM Cortex-M0 microcontroller, 24KB flash, 8KB SRAM; ki_fp_filters: *QFN*7x7mm*P0.65mm*; Footprint: Package_DFN_QFN:QFN-32-1EP_7x7mm_P0.65mm_EP4.7x4.7mm_ThermalVias; Datasheet: https://www.nxp.com/docs/en/data-sheet/LPC111X.pdf
pins: 1 PIO2_0, 2 PIO0_0, 3 PIO0_1, 4 XTALIN, 5 XTALOUT, 6 VDD, 7 PIO1_8, 8 PIO0_2, 9 PIO0_3, 10 PIO0_4, 11 PIO0_5, 12 PIO1_9, 13 PIO3_4, 14 PIO3_5, 15 PIO0_6, 16 PIO0_7, 17 PIO0_8, 18 PIO0_9, 19 PIO0_10, 20 PIO1_10, 21 PIO0_11, 22 PIO1_0, 23 PIO1_1, 24 PIO1_2, 25 PIO1_3, 26 PIO1_4, 27 PIO1_11, 28 PIO3_2, 29 VDD, 30 PIO1_5, 31 PIO1_6, 32 PIO1_7, 33 VSS

## LPC1114FBD48-301
designator *  value LPC1114FBD48-301  Reference: U
ki_keywords: ARM, 32-bit, Cortex-M0, M0, NXP, microcontroller; ki_description: 32-bit ARM Cortex-M0 microcontroller, 32KB flash, 8KB SRAM; ki_fp_filters: *QFP*7x7mm*P0.5mm*; Footprint: Package_QFP:LQFP-48_7x7mm_P0.5mm; Datasheet: http://www.nxp.com/docs/en/data-sheet/LPC111X.pdf
pins: 1 PIO2_6, 2 PIO2_0, 3 PIO0_0, 4 PIO0_1, 5 VSS, 6 XTALIN, 7 XTALOUT, 8 VDD, 9 PIO1_8, 10 PIO0_2, 11 PIO2_7, 12 PIO2_8, 13 PIO2_1, 14 PIO0_3, 15 PIO0_4, 16 PIO0_5, 17 PIO1_9, 18 PIO3_4, 19 PIO2_4, 20 PIO2_5, 21 PIO3_5, 22 PIO0_6, 23 PIO0_7, 24 PIO2_9, 25 PIO2_10, 26 PIO2_2, 27 PIO0_8, 28 PIO0_9, 29 PIO0_10, 30 PIO1_10, 31 PIO2_11, 32 PIO0_11, 33 PIO1_0, 34 PIO1_1, 35 PIO1_2, 36 PIO3_0, 37 PIO3_1, 38 PIO2_3, 39 PIO1_3, 40 PIO1_4, 41 VSS, 42 PIO1_11, 43 PIO3_2, 44 VDD, 45 PIO1_5, 46 PIO1_6, 47 PIO1_7, 48 PIO3_3

## LPC1114FBD48-302
designator *  value LPC1114FBD48-302  Reference: U
ki_keywords: ARM, 32-bit, Cortex-M0, M0, NXP, microcontroller; ki_description: 32-bit ARM Cortex-M0 microcontroller, 32KB flash, 8KB SRAM, power profile; ki_fp_filters: *QFP*7x7mm*P0.5mm*; Footprint: Package_QFP:LQFP-48_7x7mm_P0.5mm; Datasheet: http://www.nxp.com/docs/en/data-sheet/LPC111X.pdf
pins: 1 PIO2_6, 2 PIO2_0, 3 PIO0_0, 4 PIO0_1, 5 VSS, 6 XTALIN, 7 XTALOUT, 8 VDD, 9 PIO1_8, 10 PIO0_2, 11 PIO2_7, 12 PIO2_8, 13 PIO2_1, 14 PIO0_3, 15 PIO0_4, 16 PIO0_5, 17 PIO1_9, 18 PIO3_4, 19 PIO2_4, 20 PIO2_5, 21 PIO3_5, 22 PIO0_6, 23 PIO0_7, 24 PIO2_9, 25 PIO2_10, 26 PIO2_2, 27 PIO0_8, 28 PIO0_9, 29 PIO0_10, 30 PIO1_10, 31 PIO2_11, 32 PIO0_11, 33 PIO1_0, 34 PIO1_1, 35 PIO1_2, 36 PIO3_0, 37 PIO3_1, 38 PIO2_3, 39 PIO1_3, 40 PIO1_4, 41 VSS, 42 PIO1_11, 43 PIO3_2, 44 VDD, 45 PIO1_5, 46 PIO1_6, 47 PIO1_7, 48 PIO3_3

## LPC1114FBD48-303
designator *  value LPC1114FBD48-303  Reference: U
ki_keywords: ARM, 32-bit, Cortex-M0, M0, NXP, microcontroller; ki_description: 32-bit ARM Cortex-M0 microcontroller, 32KB flash, 8KB SRAM, power profile; ki_fp_filters: *QFP*7x7mm*P0.5mm*; Footprint: Package_QFP:LQFP-48_7x7mm_P0.5mm; Datasheet: http://www.nxp.com/docs/en/data-sheet/LPC111X.pdf
pins: 1 PIO2_6, 2 PIO2_0, 3 PIO0_0, 4 PIO0_1, 5 VSS, 6 XTALIN, 7 XTALOUT, 8 VDD, 9 PIO1_8, 10 PIO0_2, 11 PIO2_7, 12 PIO2_8, 13 PIO2_1, 14 PIO0_3, 15 PIO0_4, 16 PIO0_5, 17 PIO1_9, 18 PIO3_4, 19 PIO2_4, 20 PIO2_5, 21 PIO3_5, 22 PIO0_6, 23 PIO0_7, 24 PIO2_9, 25 PIO2_10, 26 PIO2_2, 27 PIO0_8, 28 PIO0_9, 29 PIO0_10, 30 PIO1_10, 31 PIO2_11, 32 PIO0_11, 33 PIO1_0, 34 PIO1_1, 35 PIO1_2, 36 PIO3_0, 37 PIO3_1, 38 PIO2_3, 39 PIO1_3, 40 PIO1_4, 41 VSS, 42 PIO1_11, 43 PIO3_2, 44 VDD, 45 PIO1_5, 46 PIO1_6, 47 PIO1_7, 48 PIO3_3

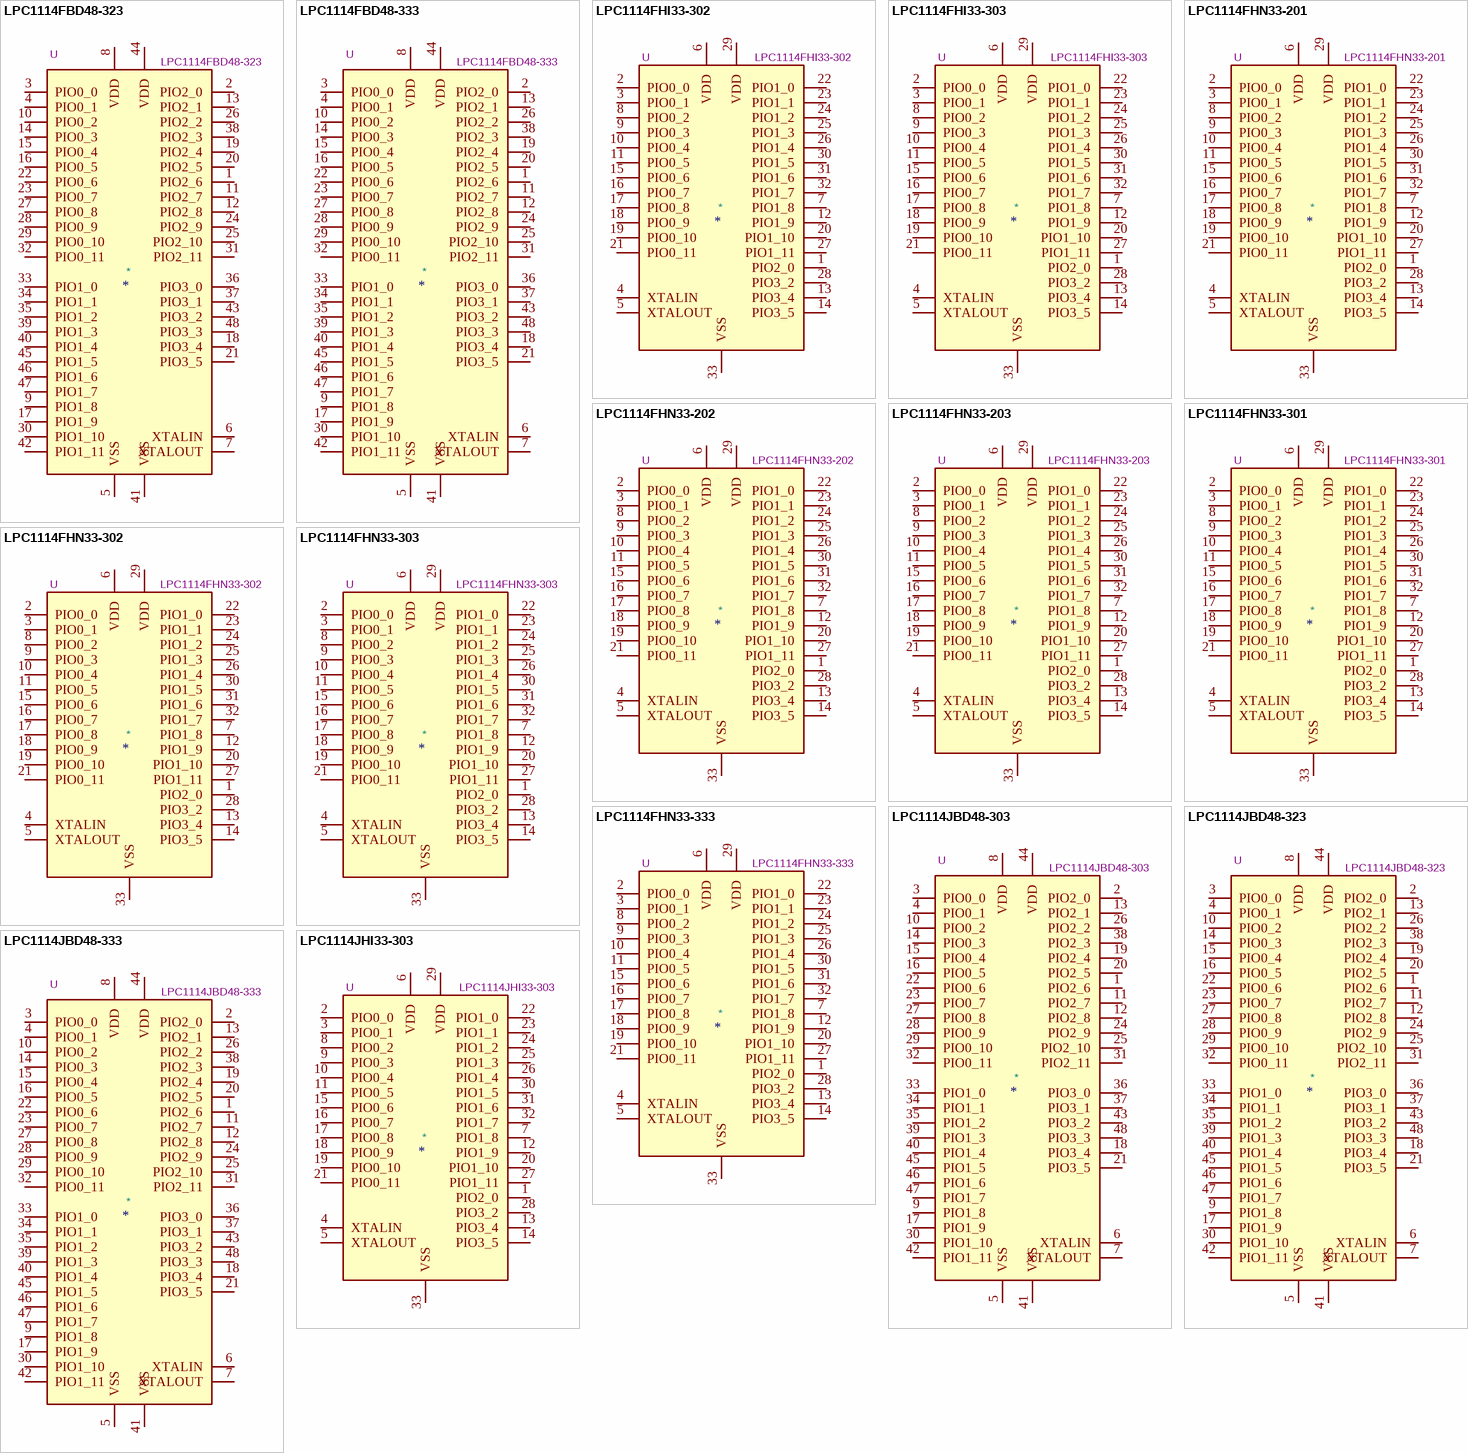
[diagram p4: symbols LPC1114FBD48-323 to LPC1114JHI33-303]

## LPC1114FBD48-323
designator *  value LPC1114FBD48-323  Reference: U
ki_keywords: ARM, 32-bit, Cortex-M0, M0, NXP, microcontroller; ki_description: 32-bit ARM Cortex-M0 microcontroller, 48KB flash, 8KB SRAM, power profile; ki_fp_filters: *QFP*7x7mm*P0.5mm*; Footprint: Package_QFP:LQFP-48_7x7mm_P0.5mm; Datasheet: http://www.nxp.com/docs/en/data-sheet/LPC111X.pdf
pins: 1 PIO2_6, 2 PIO2_0, 3 PIO0_0, 4 PIO0_1, 5 VSS, 6 XTALIN, 7 XTALOUT, 8 VDD, 9 PIO1_8, 10 PIO0_2, 11 PIO2_7, 12 PIO2_8, 13 PIO2_1, 14 PIO0_3, 15 PIO0_4, 16 PIO0_5, 17 PIO1_9, 18 PIO3_4, 19 PIO2_4, 20 PIO2_5, 21 PIO3_5, 22 PIO0_6, 23 PIO0_7, 24 PIO2_9, 25 PIO2_10, 26 PIO2_2, 27 PIO0_8, 28 PIO0_9, 29 PIO0_10, 30 PIO1_10, 31 PIO2_11, 32 PIO0_11, 33 PIO1_0, 34 PIO1_1, 35 PIO1_2, 36 PIO3_0, 37 PIO3_1, 38 PIO2_3, 39 PIO1_3, 40 PIO1_4, 41 VSS, 42 PIO1_11, 43 PIO3_2, 44 VDD, 45 PIO1_5, 46 PIO1_6, 47 PIO1_7, 48 PIO3_3